# Altium schematic symbol library MyAltiumLibrary.SchLib: 375 symbols (part 1 of 2)
Pins are listed as number, name and electrical type; pins without a type are passive.

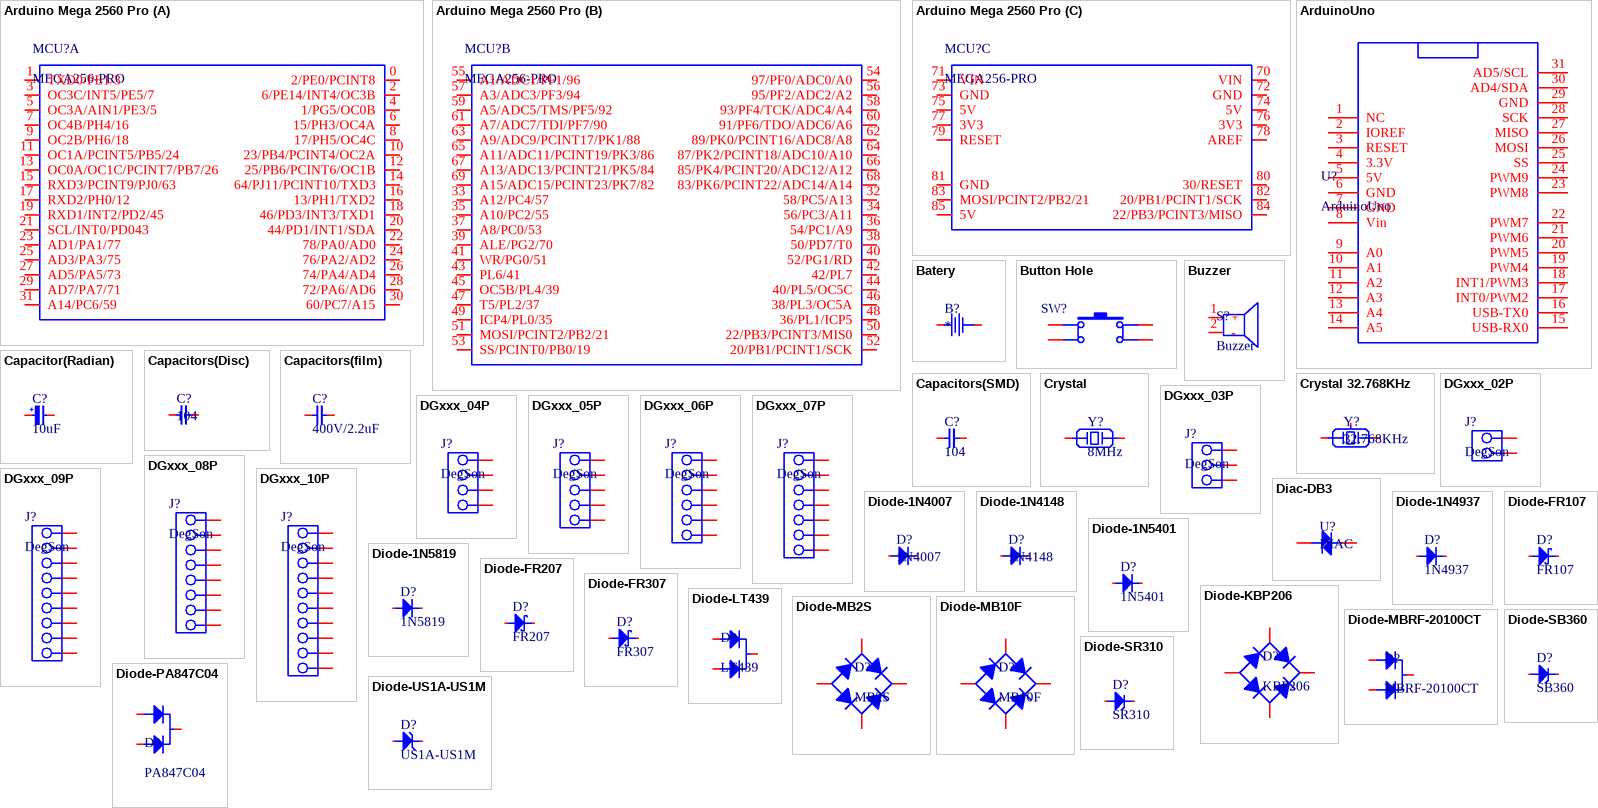
[diagram p0: symbols Arduino Mega 2560 Pro to Diode-US1A-US1M]

## Arduino Mega 2560 Pro
designator MCU?, comment MEGA256-PRO
footprint MEGA2560-PRO
part A pins: 0 2/PE0/PCINT8, 1 TXD0/PE1/3, 2 6/PE14/INT4/OC3B, 3 OC3C/INT5/PE5/7, 4 1/PG5/OC0B, 5 OC3A/AIN1/PE3/5, 6 15/PH3/OC4A, 7 OC4B/PH4/16, 8 17/PH5/OC4C, 9 OC2B/PH6/18, 10 23/PB4/PCINT4/OC2A, 11 OC1A/PCINT5/PB5/24, 12 25/PB6/PCINT6/OC1B, 13 OC0A/OC1C/PCINT7/PB7/26, 14 64/PJ11/PCINT10/TXD3, 15 RXD3/PCINT9/PJ0/63, 16 13/PH1/TXD2, 17 RXD2/PH0/12, 18 46/PD3/INT3/TXD1, 19 RXD1/INT2/PD2/45, 20 44/PD1/INT1/SDA, 21 SCL/INT0/PD043, 22 78/PA0/AD0, 23 AD1/PA1/77, 24 76/PA2/AD2, 25 AD3/PA3/75, 26 74/PA4/AD4, 27 AD5/PA5/73, 28 72/PA6/AD6, 29 AD7/PA7/71, 30 60/PC7/A15, 31 A14/PC6/59
part B pins: 32 58/PC5/A13, 33 A12/PC4/57, 34 56/PC3/A11, 35 A10/PC2/55, 36 54/PC1/A9, 37 A8/PC0/53, 38 50/PD7/T0, 39 ALE/PG2/70, 40 52/PG1/RD, 41 WR/PG0/51, 42 42/PL7, 43 PL6/41, 44 40/PL5/OC5C, 45 OC5B/PL4/39, 46 38/PL3/OC5A, 47 T5/PL2/37, 48 36/PL1/ICP5, 49 ICP4/PL0/35, 50 22/PB3/PCINT3/MIS0, 51 MOSI/PCINT2/PB2/21, 52 20/PB1/PCINT1/SCK, 53 SS/PCINT0/PB0/19, 54 97/PF0/ADC0/A0, 55 A1/ADC1/PF1/96, 56 95/PF2/ADC2/A2, 57 A3/ADC3/PF3/94, 58 93/PF4/TCK/ADC4/A4, 59 A5/ADC5/TMS/PF5/92, 60 91/PF6/TDO/ADC6/A6, 61 A7/ADC7/TDI/PF7/90, 62 89/PK0/PCINT16/ADC8/A8, 63 A9/ADC9/PCINT17/PK1/88, 64 87/PK2/PCINT18/ADC10/A10, 65 A11/ADC11/PCINT19/PK3/86, 66 85/PK4/PCINT20/ADC12/A12, 67 A13/ADC13/PCINT21/PK5/84, 68 83/PK6/PCINT22/ADC14/A14, 69 A15/ADC15/PCINT23/PK7/82
part C pins: 70 VIN, 71 VIN, 72 GND, 73 GND, 74 5V, 75 5V, 76 3V3, 77 3V3, 78 AREF, 79 RESET, 80 30/RESET, 81 GND, 82 20/PB1/PCINT1/SCK, 83 MOSI/PCINT2/PB2/21, 84 22/PB3/PCINT3/MISO, 85 5V

## ArduinoUno
designator U?
footprint Arduino_Uno
footprint ARDUINO_UNO_PIN_PACK
pins: 1 NC, 2 IOREF, 3 RESET, 4 3.3V, 5 5V, 6 GND, 7 GND, 8 Vin, 9 A0, 10 A1, 11 A2, 12 A3, 13 A4, 14 A5, 15 USB-RX0, 16 USB-TX0, 17 INT0/PWM2, 18 INT1/PWM3, 19 PWM4, 20 PWM5, 21 PWM6, 22 PWM7, 23 PWM8, 24 PWM9, 25 SS, 26 MOSI, 27 MISO, 28 SCK, 29 GND, 30 AD4/SDA, 31 AD5/SCL

## Batery
designator B?
footprint CR1220
pins: 1, 2

## Button Hole
designator SW?  (value not drawn)
footprint BUTTON_HOLE_4.3mm
footprint Tactal Switch - THRU(12mmx12mmx8mm)-Black.stp
footprint Tactal Switch - THRU(12mmx12mmx8mm)-Blue
footprint Tactal Switch - THRU(12mmx12mmx8mm)-Brown
footprint Tactal Switch - THRU(12mmx12mmx8mm)-Green
footprint Tactal Switch - THRU(12mmx12mmx8mm)-Orange
footprint Tactal Switch - THRU(12mmx12mmx8mm)-Red
footprint Tactal Switch - THRU(12mmx12mmx8mm)-White
footprint Tactal Switch - THRU(12mmx12mmx8mm)-Yellow
pins: 1, 2, 3, 4

## Buzzer
designator S?
footprint Buzeer-Hozital
footprint Buzzer-Vertical
pins: 1 +, 2 -

## Capacitor(Radian)
designator C?, comment 10uF
footprint CAP_RAD_D05x11
footprint CAP_RAD_D06.3x11
footprint CAP_RAD_D08x11.5
footprint CAP_RAD_D08x15
footprint CAP_RAD_D08x20
footprint CAP_RAD_D10x12.5
footprint CAP_RAD_D10x16
footprint CAP_RAD_D10x20
footprint CAP_RAD_D10x25
footprint CAP_RAD_D10x31.5
footprint CAP_RAD_D12.5x15
footprint CAP_RAD_D12.5x20
footprint CAP_RAD_D12.5x25
footprint CAP_RAD_D12.5x31.5
footprint CAP_RAD_D12.5x35.5
footprint CAP_RAD_D12.5x40
footprint CAP_RAD_D16x15
footprint CAP_RAD_D16x20
footprint CAP_RAD_D16x25
footprint CAP_RAD_D16x31.5
footprint CAP_RAD_D16x35.5
footprint CAP_RAD_D16x40
footprint CAP_RAD_D18x15
footprint CAP_RAD_D18x20
footprint CAP_RAD_D18x25
footprint CAP_RAD_D18x31.5
footprint CAP_RAD_D18x35.5
footprint CAP_RAD_D18x40
pins: 1, 2
text: +

## Capacitors(Disc)
designator C?, comment 104
footprint CAP_Ceramic_2.5MM
footprint CAP_Ceramic_5MM
footprint CAP_Ceramic_7.62MM
footprint CAP_Ceramic_7.62MM
footprint CAP_Ceramic_10MM
footprint CAP_Ceramic_472M_7.21MM
footprint CAP_Ceramic_473M_9.65mm
footprint CAP_DISC_104
pins: 1, 2

## Capacitors(film)
designator C?, comment 400V/2.2uF
footprint CAP_BOX_7.2x2.5x6.5_RD
footprint CAP_BOX_7.3x4.5x9.5_BL
footprint CAP_BOX_7.5x5x10_BL
footprint CAP_BOX_13x4x7_BL
footprint CAP_BOX_13x4x9_BL
footprint CAP_BOX_18x5x10.5_BL
footprint CAP_BOX_18x6x11_BL
footprint CAP_BOX_18x8.5x14.5_BL
footprint CAP-FILM-6X8MM
footprint CAP-FILM-5MM
footprint CAP-FILM-7.5MM
pins: 1, 2

## Capacitors(SMD)
designator C?, comment 104
footprint C0201
footprint C0402
footprint C0603
footprint C0805
footprint C1206
footprint C1808
footprint C1812
pins: 1, 2

## Crystal
designator Y?, comment 8MHz
footprint HC-49S
footprint HC-49_THROUGH
footprint SMD5032
pins: 1, 2

## Crystal 32.768KHz
designator Y?, comment 32.768KHz
footprint DT-26
footprint CRYSTAL 32.768
pins: 1, 2, 3 GND

## DGxxx_02P
designator J?, comment DegSon
footprint DG350-3.5-02P-12-00AH
footprint DG306-5.0-02P-12-00AH (• Current rating: 10 A AC/DC  • Voltage rating: 300 V AC/DC  • Temperature range: -30° ~ +120°  • Applicable wire: 22-14AWG UL (0.5 - 1.5mm² IEC))
footprint DG128-5.0-02P-14-00AH
footprint DG127-5.0-02P-14-00AH
footprint DG125-5.0-02P-14-00AH
footprint 2EDGR-5.08-02P-14-00AH
pins: 1, 2

## DGxxx_03P
designator J?, comment DegSon
footprint DG350-3.5-03P-12-00AH
footprint DG306-5.0-03P-12-00AH
footprint DG128-5.0-03P-14-00AH
footprint DG127-5.0-03P-14-00AH
footprint DG125-5.0-03P-14-00AH
footprint 2EDGR-5.08-03P-14-00AH
pins: 1, 2, 3

## DGxxx_04P
designator J?, comment DegSon
footprint DG350-3.5-04P-12-00AH
footprint DG306-5.0-04P-12-00AH
footprint DG128-5.0-04P-14-00AH
footprint DG127-5.0-04P-14-00AH
footprint DG125-5.0-04P-14-00AH
footprint 2EDGR-5.08-04P-14-00AH
pins: 1, 2, 3, 4

## DGxxx_05P
designator J?, comment DegSon
footprint DG350-3.5-05P-12-00AH
footprint DG306-5.0-05P-12-00AH
footprint DG128-5.0-05P-14-00AH
footprint DG127-5.0-05P-14-00AH
footprint DG125-5.0-05P-14-00AH
footprint 2EDGR-5.08-05P-14-00AH
pins: 1, 2, 3, 4, 5

## DGxxx_06P
designator J?, comment DegSon
footprint DG350-3.5-06P-12-00AH
footprint DG306-5.0-06P-12-00AH
footprint DG128-5.0-06P-14-00AH
footprint DG127-5.0-06P-14-00AH
footprint DG125-5.0-06P-14-00AH
footprint 2EDGR-5.08-06P-14-00AH
pins: 1, 2, 3, 4, 5, 6

## DGxxx_07P
designator J?, comment DegSon
footprint DG350-3.5-07P-12-00AH
footprint DG306-5.0-07P-12-00AH
footprint DG128-5.0-07P-14-00AH
footprint DG127-5.0-07P-14-00AH
footprint DG125-5.0-07P-14-00AH
footprint 2EDGR-5.08-07P-14-00AH
pins: 1, 2, 3, 4, 5, 6, 7

## DGxxx_08P
designator J?, comment DegSon
footprint DG350-3.5-08P-12-00AH
footprint DG306-5.0-08P-12-00AH
footprint DG128-5.0-08P-14-00AH
footprint DG127-5.0-08P-14-00AH
footprint DG125-5.0-08P-14-00AH
footprint 2EDGR-5.08-08P-14-00AH
pins: 1, 2, 3, 4, 5, 6, 7, 8

## DGxxx_09P
designator J?, comment DegSon
footprint DG350-3.5-09P-12-00AH
footprint DG306-5.0-09P-12-00AH
footprint DG128-5.0-09P-14-00AH
footprint DG127-5.0-09P-14-00AH
footprint DG125-5.0-09P-14-00AH
footprint 2EDGR-5.08-09P-14-00AH
pins: 1, 2, 3, 4, 5, 6, 7, 8, 9

## DGxxx_10P
designator J?, comment DegSon
footprint DG350-3.5-10P-12-00AH
footprint DG306-5.0-10P-12-00AH
footprint DG128-5.0-10P-14-00AH
footprint DG127-5.0-10P-14-00AH
footprint DG125-5.0-10P-14-00AH
footprint 2EDGR-5.08-10P-14-00AH
pins: 1, 2, 3, 4, 5, 6, 7, 8, 9, 10

## Diac-DB3
designator U?, comment DIAC
footprint SOT23-3
footprint DO-35-DIAC
pins: 1 4, 2

## Diode-1N4007
designator D?, comment 1N4007
footprint DO-214AC
footprint DO-204AL-BK
footprint DO-204AL-R-BK
pins: 1, 2

## Diode-1N4148
designator D?, comment 1N4148
The fast switching diode
footprint SOD-80
footprint DO-204AH-RD
footprint DO-204AH-VA-RD
footprint DO-204AH-VK-RD
pins: 1, 2

## Diode-1N4937
designator D?, comment 1N4937
footprint DO-204AL-BK
footprint DO-204AL-R-BK
footprint DO-204AL-VA-BK
footprint DO-204AL-VK-BK
pins: 1, 2

## Diode-1N5401
designator D?, comment 1N5401
footprint DO-201AD-BK
footprint DO-201AD-R-BK
pins: 1, 2

## Diode-1N5819
designator D?, comment 1N5819
1A - Schotky Diode
footprint DO-204AL-BK
footprint DO-204AL-R-BK
pins: 1, 2

## Diode-FR107
designator D?, comment FR107
1A 1000V
footprint SOD-123FL
footprint DO-204AL-BK
pins: 1, 2

## Diode-FR207
designator D?, comment FR207
footprint DO-204AC-BK
footprint DO-204AC-R-BK
pins: 1, 2

## Diode-FR307
designator D?, comment FR307
footprint DO-201AD-BK
footprint DO-201AD-R-BK
pins: 1, 2

## Diode-KBP206
designator D?, comment KBP206
footprint DIODE-KBP206
pins: 1 +, 2 AC, 3 AC, 4 -

## Diode-LT439
designator D?, comment LT439
footprint TO-220AB-FairA
footprint TO-220-HEAT-SINK-1
pins: 1, 2, 3

## Diode-MB2S
designator D?, comment MB2S
footprint TO-269AA
pins: 1, 2, 3, 4

## Diode-MB10F
designator D?, comment MB10F
1A 1000V
footprint MB10F-TMBS
pins: 1 AC, 2 AC, 3 +, 4 -

## Diode-MBRF-20100CT
designator D?, comment MBRF-20100CT
footprint TO-220F
footprint TO-220F-HEAT-SINK
pins: 1, 2, 3

## Diode-PA847C04
designator D?, comment PA847C04
40A-Schotky
footprint TO-3P
pins: 1, 2, 3

## Diode-SB360
designator D?, comment SB360
3A-SCHOTTKY
footprint DO-201AD-BK
footprint DO-201AD-R-BK
pins: 1, 2

## Diode-SR310
designator D?, comment SR310
3A-Schotky
footprint DO-201AD-R-BK
footprint DO-201AD-BK
pins: 1, 2

## Diode-US1A-US1M
designator D?, comment US1A-US1M
footprint DO-214AC(SMA)
pins: 1, 2

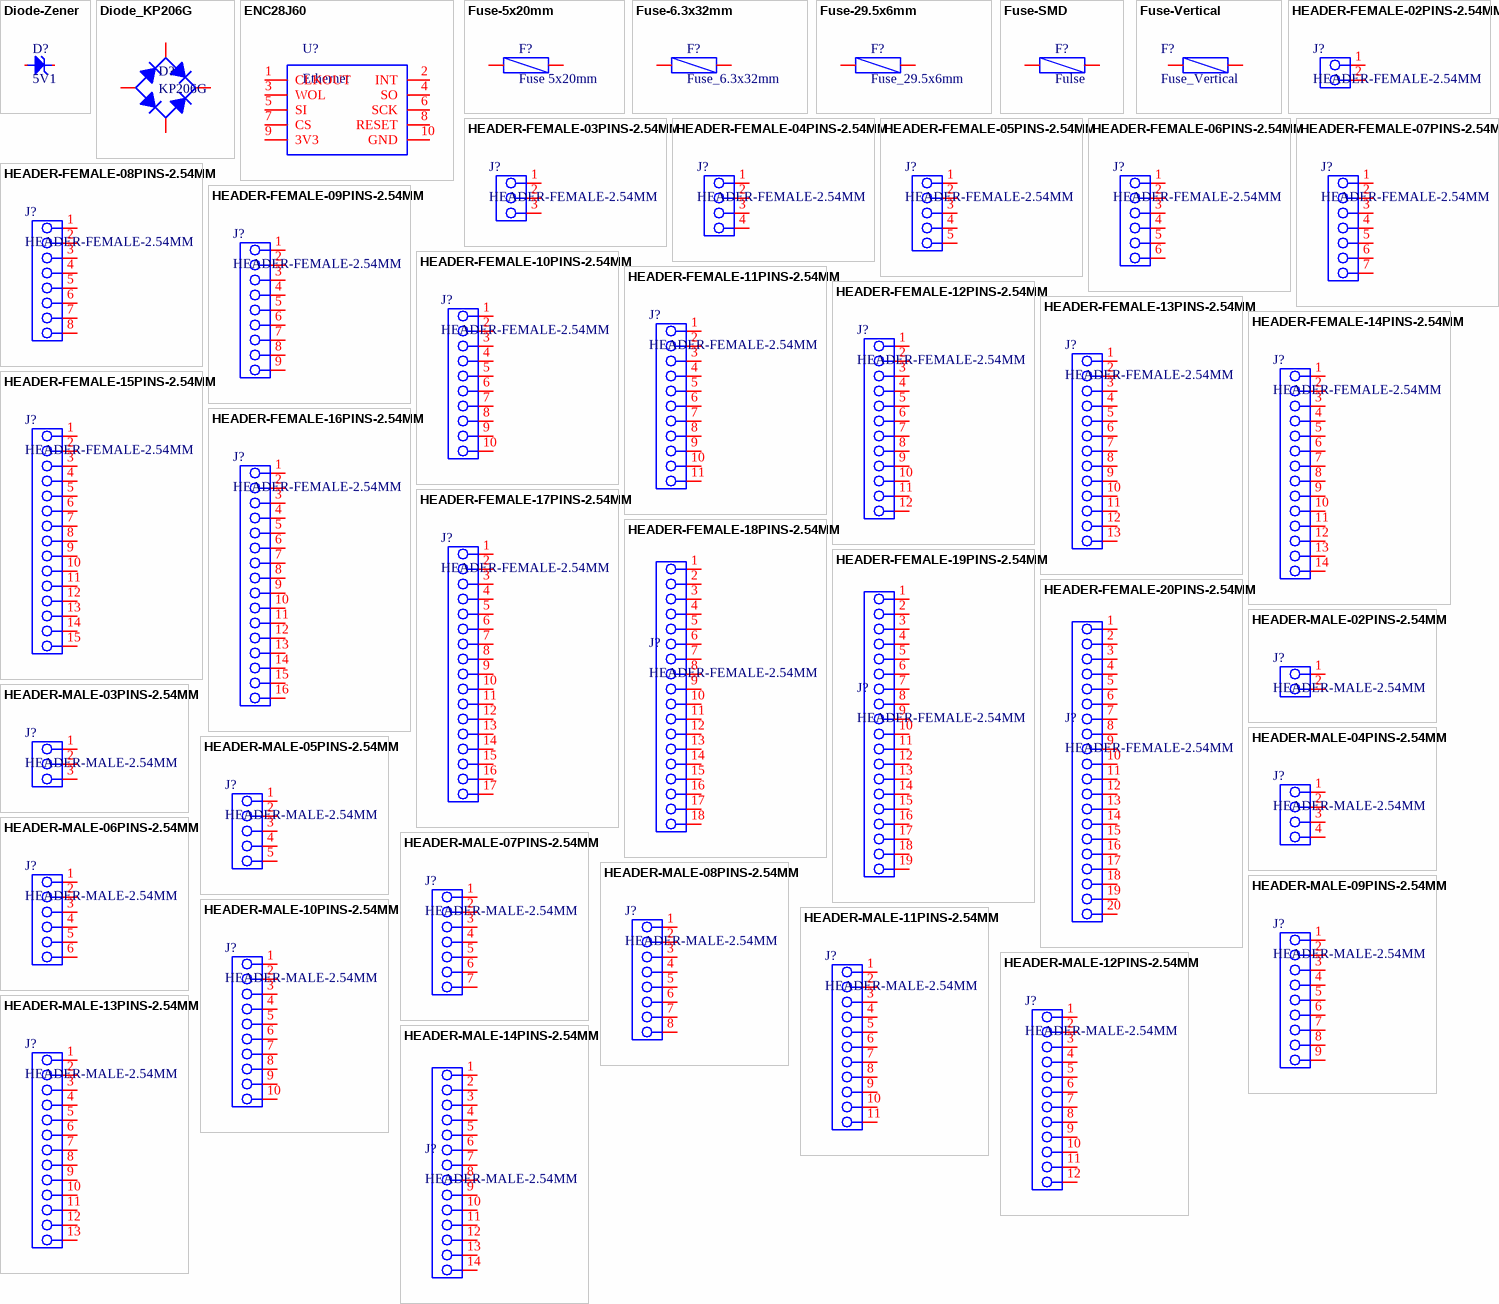
[diagram p1: symbols Diode-Zener to HEADER-MALE-14PINS-2.54MM]

## Diode-Zener
designator D?, comment 5V1
footprint DO-213AB
footprint DO-204AL-RD
pins: 1, 2

## Diode_KP206G
designator D?, comment KP206G
footprint DIODE_2A
pins: 1, 2, 3, 4

## ENC28J60
designator U?, comment Ethernet
footprint ENC28J60
pins: 1 CLKOUT, 2 INT, 3 WOL, 4 SO, 5 SI, 6 SCK, 7 CS, 8 RESET, 9 3V3, 10 GND

## Fuse-5x20mm
designator F?, comment Fuse 5x20mm
footprint FUSE_5x20MM
footprint FUSE_Bel_MJS
pins: 1, 2

## Fuse-6.3x32mm
designator F?, comment Fuse_6.3x32mm
footprint FUSE_6.3x32mm
pins: 1, 2

## Fuse-29.5x6mm
designator F?, comment Fuse_29.5x6mm
footprint FUSE_29.5x6mm
pins: 1, 2

## Fuse-SMD
designator F?, comment Fulse
footprint FUSE1812
pins: 1, 2

## Fuse-Vertical
designator F?, comment Fuse_Vertical
footprint FUSE_Vertical
footprint FUSE_Bel_MJS_V
pins: 1, 2

## HEADER-FEMALE-02PINS-2.54MM
designator J?, comment HEADER-FEMALE-2.54MM
footprint HEADER-FEMALE-02PINS-2.54MM
pins: 1, 2

## HEADER-FEMALE-03PINS-2.54MM
designator J?, comment HEADER-FEMALE-2.54MM
footprint HEADER-FEMALE-03PINS-2.54MM
pins: 1, 2, 3

## HEADER-FEMALE-04PINS-2.54MM
designator J?, comment HEADER-FEMALE-2.54MM
footprint HEADER-FEMALE-04PINS-2.54MM
pins: 1, 2, 3, 4

## HEADER-FEMALE-05PINS-2.54MM
designator J?, comment HEADER-FEMALE-2.54MM
footprint HEADER-FEMALE-05PINS-2.54MM
pins: 1, 2, 3, 4, 5

## HEADER-FEMALE-06PINS-2.54MM
designator J?, comment HEADER-FEMALE-2.54MM
footprint HEADER-FEMALE-06PINS-2.54MM
pins: 1, 2, 3, 4, 5, 6

## HEADER-FEMALE-07PINS-2.54MM
designator J?, comment HEADER-FEMALE-2.54MM
footprint HEADER-FEMALE-07PINS-2.54MM
pins: 1, 2, 3, 4, 5, 6, 7

## HEADER-FEMALE-08PINS-2.54MM
designator J?, comment HEADER-FEMALE-2.54MM
footprint HEADER-FEMALE-08PINS-2.54MM
pins: 1, 2, 3, 4, 5, 6, 7, 8

## HEADER-FEMALE-09PINS-2.54MM
designator J?, comment HEADER-FEMALE-2.54MM
footprint HEADER-FEMALE-09PINS-2.54MM
pins: 1, 2, 3, 4, 5, 6, 7, 8, 9

## HEADER-FEMALE-10PINS-2.54MM
designator J?, comment HEADER-FEMALE-2.54MM
footprint HEADER-FEMALE-10PINS-2.54MM
pins: 1, 2, 3, 4, 5, 6, 7, 8, 9, 10

## HEADER-FEMALE-11PINS-2.54MM
designator J?, comment HEADER-FEMALE-2.54MM
footprint HEADER-FEMALE-11PINS-2.54MM
pins: 1, 2, 3, 4, 5, 6, 7, 8, 9, 10, 11

## HEADER-FEMALE-12PINS-2.54MM
designator J?, comment HEADER-FEMALE-2.54MM
footprint HEADER-FEMALE-12PINS-2.54MM
pins: 1, 2, 3, 4, 5, 6, 7, 8, 9, 10, 11, 12

## HEADER-FEMALE-13PINS-2.54MM
designator J?, comment HEADER-FEMALE-2.54MM
footprint HEADER-FEMALE-13PINS-2.54MM
pins: 1, 2, 3, 4, 5, 6, 7, 8, 9, 10, 11, 12, 13

## HEADER-FEMALE-14PINS-2.54MM
designator J?, comment HEADER-FEMALE-2.54MM
footprint HEADER-FEMALE-14PINS-2.54MM
pins: 1, 2, 3, 4, 5, 6, 7, 8, 9, 10, 11, 12, 13, 14

## HEADER-FEMALE-15PINS-2.54MM
designator J?, comment HEADER-FEMALE-2.54MM
footprint HEADER-FEMALE-15PINS-2.54MM
pins: 1, 2, 3, 4, 5, 6, 7, 8, 9, 10, 11, 12, 13, 14, 15

## HEADER-FEMALE-16PINS-2.54MM
designator J?, comment HEADER-FEMALE-2.54MM
footprint HEADER-FEMALE-16PINS-2.54MM
pins: 1, 2, 3, 4, 5, 6, 7, 8, 9, 10, 11, 12, 13, 14, 15, 16

## HEADER-FEMALE-17PINS-2.54MM
designator J?, comment HEADER-FEMALE-2.54MM
footprint HEADER-FEMALE-17PINS-2.54MM
pins: 1, 2, 3, 4, 5, 6, 7, 8, 9, 10, 11, 12, 13, 14, 15, 16, 17

## HEADER-FEMALE-18PINS-2.54MM
designator J?, comment HEADER-FEMALE-2.54MM
footprint HEADER-FEMALE-18PINS-2.54MM
pins: 1, 2, 3, 4, 5, 6, 7, 8, 9, 10, 11, 12, 13, 14, 15, 16, 17, 18

## HEADER-FEMALE-19PINS-2.54MM
designator J?, comment HEADER-FEMALE-2.54MM
footprint HEADER-FEMALE-19PINS-2.54MM
pins: 1, 2, 3, 4, 5, 6, 7, 8, 9, 10, 11, 12, 13, 14, 15, 16, 17, 18, 19

## HEADER-FEMALE-20PINS-2.54MM
designator J?, comment HEADER-FEMALE-2.54MM
footprint HEADER-FEMALE-20PINS-2.54MM
pins: 1, 2, 3, 4, 5, 6, 7, 8, 9, 10, 11, 12, 13, 14, 15, 16, 17, 18, 19, 20

## HEADER-MALE-02PINS-2.54MM
designator J?, comment HEADER-MALE-2.54MM
footprint HEADER-MALE-02PINS-2.54MM
pins: 1, 2

## HEADER-MALE-03PINS-2.54MM
designator J?, comment HEADER-MALE-2.54MM
footprint HEADER-MALE-03PINS-2.54MM
pins: 1, 2, 3

## HEADER-MALE-04PINS-2.54MM
designator J?, comment HEADER-MALE-2.54MM
footprint HEADER-MALE-04PINS-2.54MM
pins: 1, 2, 3, 4

## HEADER-MALE-05PINS-2.54MM
designator J?, comment HEADER-MALE-2.54MM
footprint HEADER-MALE-05PINS-2.54MM
pins: 1, 2, 3, 4, 5

## HEADER-MALE-06PINS-2.54MM
designator J?, comment HEADER-MALE-2.54MM
footprint HEADER-MALE-06PINS-2.54MM
pins: 1, 2, 3, 4, 5, 6

## HEADER-MALE-07PINS-2.54MM
designator J?, comment HEADER-MALE-2.54MM
footprint HEADER-MALE-07PINS-2.54MM
pins: 1, 2, 3, 4, 5, 6, 7

## HEADER-MALE-08PINS-2.54MM
designator J?, comment HEADER-MALE-2.54MM
footprint HEADER-MALE-08PINS-2.54MM
pins: 1, 2, 3, 4, 5, 6, 7, 8

## HEADER-MALE-09PINS-2.54MM
designator J?, comment HEADER-MALE-2.54MM
footprint HEADER-MALE-09PINS-2.54MM
pins: 1, 2, 3, 4, 5, 6, 7, 8, 9

## HEADER-MALE-10PINS-2.54MM
designator J?, comment HEADER-MALE-2.54MM
footprint HEADER-MALE-10PINS-2.54MM
pins: 1, 2, 3, 4, 5, 6, 7, 8, 9, 10

## HEADER-MALE-11PINS-2.54MM
designator J?, comment HEADER-MALE-2.54MM
footprint HEADER-MALE-11PINS-2.54MM
pins: 1, 2, 3, 4, 5, 6, 7, 8, 9, 10, 11

## HEADER-MALE-12PINS-2.54MM
designator J?, comment HEADER-MALE-2.54MM
footprint HEADER-MALE-12PINS-2.54MM
pins: 1, 2, 3, 4, 5, 6, 7, 8, 9, 10, 11, 12

## HEADER-MALE-13PINS-2.54MM
designator J?, comment HEADER-MALE-2.54MM
footprint HEADER-MALE-13PINS-2.54MM
pins: 1, 2, 3, 4, 5, 6, 7, 8, 9, 10, 11, 12, 13

## HEADER-MALE-14PINS-2.54MM
designator J?, comment HEADER-MALE-2.54MM
footprint HEADER-MALE-14PINS-2.54MM
pins: 1, 2, 3, 4, 5, 6, 7, 8, 9, 10, 11, 12, 13, 14

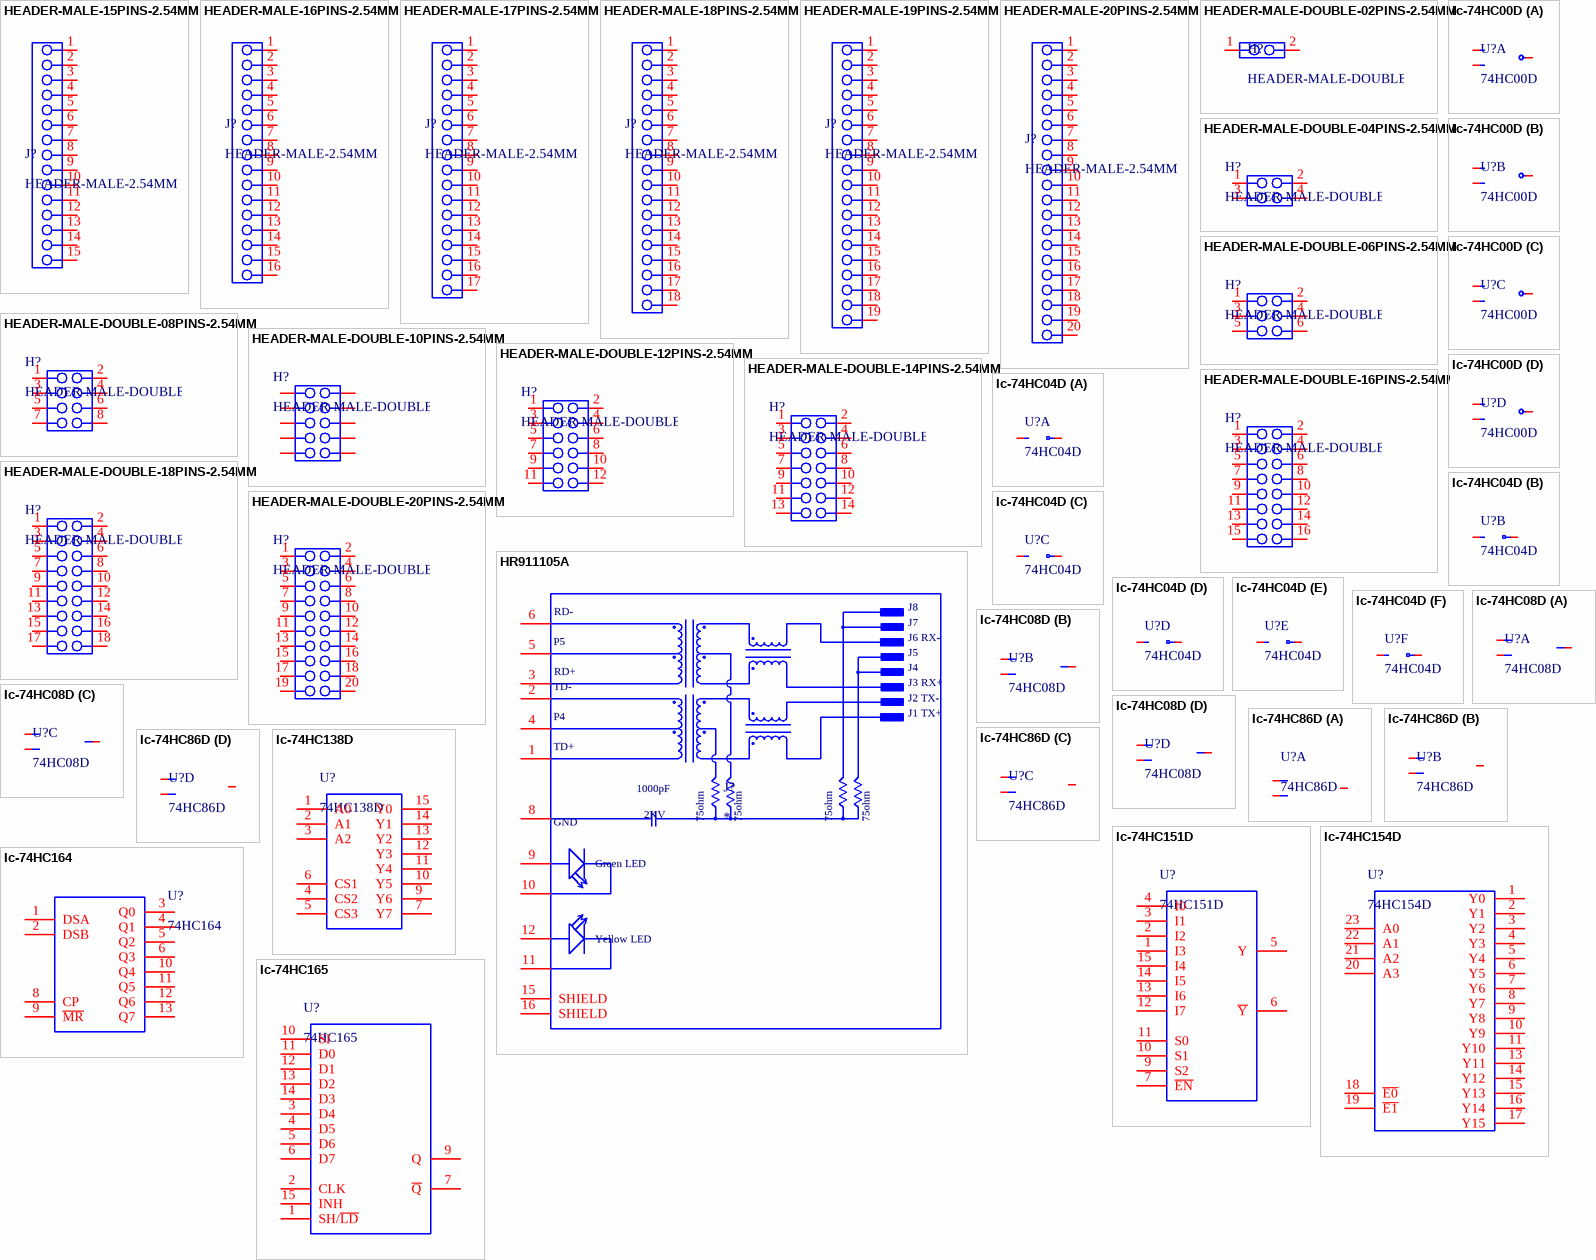
[diagram p2: symbols HEADER-MALE-15PINS-2.54MM to Ic-74HC165]

## HEADER-MALE-15PINS-2.54MM
designator J?, comment HEADER-MALE-2.54MM
footprint HEADER-MALE-15PINS-2.54MM
pins: 1, 2, 3, 4, 5, 6, 7, 8, 9, 10, 11, 12, 13, 14, 15

## HEADER-MALE-16PINS-2.54MM
designator J?, comment HEADER-MALE-2.54MM
footprint HEADER-MALE-16PINS-2.54MM
pins: 1, 2, 3, 4, 5, 6, 7, 8, 9, 10, 11, 12, 13, 14, 15, 16

## HEADER-MALE-17PINS-2.54MM
designator J?, comment HEADER-MALE-2.54MM
footprint HEADER-MALE-17PINS-2.54MM
pins: 1, 2, 3, 4, 5, 6, 7, 8, 9, 10, 11, 12, 13, 14, 15, 16, 17

## HEADER-MALE-18PINS-2.54MM
designator J?, comment HEADER-MALE-2.54MM
footprint HEADER-MALE-18PINS-2.54MM
pins: 1, 2, 3, 4, 5, 6, 7, 8, 9, 10, 11, 12, 13, 14, 15, 16, 17, 18

## HEADER-MALE-19PINS-2.54MM
designator J?, comment HEADER-MALE-2.54MM
footprint HEADER-MALE-19PINS-2.54MM
pins: 1, 2, 3, 4, 5, 6, 7, 8, 9, 10, 11, 12, 13, 14, 15, 16, 17, 18, 19

## HEADER-MALE-20PINS-2.54MM
designator J?, comment HEADER-MALE-2.54MM
footprint HEADER-MALE-20PINS-2.54MM
pins: 1, 2, 3, 4, 5, 6, 7, 8, 9, 10, 11, 12, 13, 14, 15, 16, 17, 18, 19, 20

## HEADER-MALE-DOUBLE-02PINS-2.54MM
designator H?, comment HEADER-MALE-DOUBLE
footprint HEADER-MALE-DOUBLE-02PINS-2.54MM
pins: 1, 2

## HEADER-MALE-DOUBLE-04PINS-2.54MM
designator H?, comment HEADER-MALE-DOUBLE
footprint HEADER-MALE-DOUBLE-04PINS-2.54MM
pins: 1, 2, 3, 4

## HEADER-MALE-DOUBLE-06PINS-2.54MM
designator H?, comment HEADER-MALE-DOUBLE
footprint HEADER-MALE-DOUBLE-06PINS-2.54MM
pins: 1, 2, 3, 4, 5, 6

## HEADER-MALE-DOUBLE-08PINS-2.54MM
designator H?, comment HEADER-MALE-DOUBLE
footprint HEADER-MALE-DOUBLE-08PINS-2.54MM
pins: 1, 2, 3, 4, 5, 6, 7, 8

## HEADER-MALE-DOUBLE-10PINS-2.54MM
designator H?, comment HEADER-MALE-DOUBLE
footprint HEADER-MALE-DOUBLE-10PINS-2.54MM
pins: 1, 2, 3, 4, 5, 6, 7, 8, 9, 10

## HEADER-MALE-DOUBLE-12PINS-2.54MM
designator H?, comment HEADER-MALE-DOUBLE
footprint HEADER-MALE-DOUBLE-12PINS-2.54MM
pins: 1, 2, 3, 4, 5, 6, 7, 8, 9, 10, 11, 12

## HEADER-MALE-DOUBLE-14PINS-2.54MM
designator H?, comment HEADER-MALE-DOUBLE
footprint HEADER-MALE-DOUBLE-14PINS-2.54MM
pins: 1, 2, 3, 4, 5, 6, 7, 8, 9, 10, 11, 12, 13, 14

## HEADER-MALE-DOUBLE-16PINS-2.54MM
designator H?, comment HEADER-MALE-DOUBLE
footprint HEADER-MALE-DOUBLE-16PINS-2.54MM
pins: 1, 2, 3, 4, 5, 6, 7, 8, 9, 10, 11, 12, 13, 14, 15, 16

## HEADER-MALE-DOUBLE-18PINS-2.54MM
designator H?, comment HEADER-MALE-DOUBLE
footprint HEADER-MALE-DOUBLE-18PINS-2.54MM
pins: 1, 2, 3, 4, 5, 6, 7, 8, 9, 10, 11, 12, 13, 14, 15, 16, 17, 18

## HEADER-MALE-DOUBLE-20PINS-2.54MM
designator H?, comment HEADER-MALE-DOUBLE
footprint HEADER-MALE-DOUBLE-20PINS-2.54MM
pins: 1, 2, 3, 4, 5, 6, 7, 8, 9, 10, 11, 12, 13, 14, 15, 16, 17, 18, 19, 20

## HR911105A
designator J?
footprint HR911105A
pins: 1 TD+, 2 TD-, 3 RD+, 4 P4, 5 P5, 6 RD-, 8 GND (power), 9 GA, 10 GC, 11 YC, 12 YA, 15 SHIELD, 16 SHIELD
text: J8; J7; J6 RX-; J5; J4; J3 RX+; J2 TX-; J1 TX+; 1000pF; 2KV; 75ohm; Green LED; Yellow LED

## Ic-74HC00D
designator U?, comment 74HC00D
footprint SO14
part A pins: 1, 2, 3, 7 hidden to GND, 14 hidden to VCC
part B pins: 4, 5, 6
part C pins: 8, 9, 10
part D pins: 11, 12, 13

## Ic-74HC04D
designator U?, comment 74HC04D
footprint SO14
part A pins: 1, 2, 7 hidden to GND, 14 hidden to VCC
part B pins: 3, 4
part C pins: 5, 6
part D pins: 8, 9
part E pins: 10, 11
part F pins: 12, 13

## Ic-74HC08D
designator U?, comment 74HC08D
footprint SO14
part A pins: 1, 2, 3
part B pins: 4, 5, 6, 7 hidden to GND, 14 hidden to VCC
part C pins: 8, 9, 10
part D pins: 11, 12, 13

## Ic-74HC86D
designator U?, comment 74HC86D
footprint SO14
part A pins: 1, 2, 3, 7 hidden to GND, 14 hidden to VCC
part B pins: 4, 5, 6
part C pins: 8, 9, 10
part D pins: 11, 12, 13

## Ic-74HC138D
designator U?, comment 74HC138D
footprint SO16
pins: 1 A0, 2 A1, 3 A2, 4 CS2, 5 CS3, 6 CS1, 7 Y7, 8 hidden to GND, 9 Y6, 10 Y5, 11 Y4, 12 Y3, 13 Y2, 14 Y1, 15 Y0, 16 hidden to VCC

## Ic-74HC151D
designator U?, comment 74HC151D
footprint SO16
pins: 1 I3, 2 I2, 3 I1, 4 I0, 5 Y, 6 ~{Y}, 7 ~{EN}, 8 hidden to GND, 9 S2, 10 S1, 11 S0, 12 I7, 13 I6, 14 I5, 15 I4, 16 hidden to VCC

## Ic-74HC154D
designator U?, comment 74HC154D
footprint SO24
pins: 1 Y0, 2 Y1, 3 Y2, 4 Y3, 5 Y4, 6 Y5, 7 Y6, 8 Y7, 9 Y8, 10 Y9, 11 Y10, 12 hidden to GND, 13 Y11, 14 Y12, 15 Y13, 16 Y14, 17 Y15, 18 ~{E0}, 19 ~{E1}, 20 A3, 21 A2, 22 A1, 23 A0, 24 hidden to VCC

## Ic-74HC164
designator U?, comment 74HC164
footprint SO14
pins: 1 DSA, 2 DSB, 3 Q0, 4 Q1, 5 Q2, 6 Q3, 7 hidden to GND, 8 CP, 9 ~{MR}, 10 Q4, 11 Q5, 12 Q6, 13 Q7, 14 hidden to VCC

## Ic-74HC165
designator U?, comment 74HC165
footprint SO16
pins: 1 SH/~{LD}, 2 CLK, 3 D4, 4 D5, 5 D6, 6 D7, 7 ~{Q}, 8 hidden to GND, 9 Q, 10 SI, 11 D0, 12 D1, 13 D2, 14 D3, 15 INH, 16 hidden to VCC

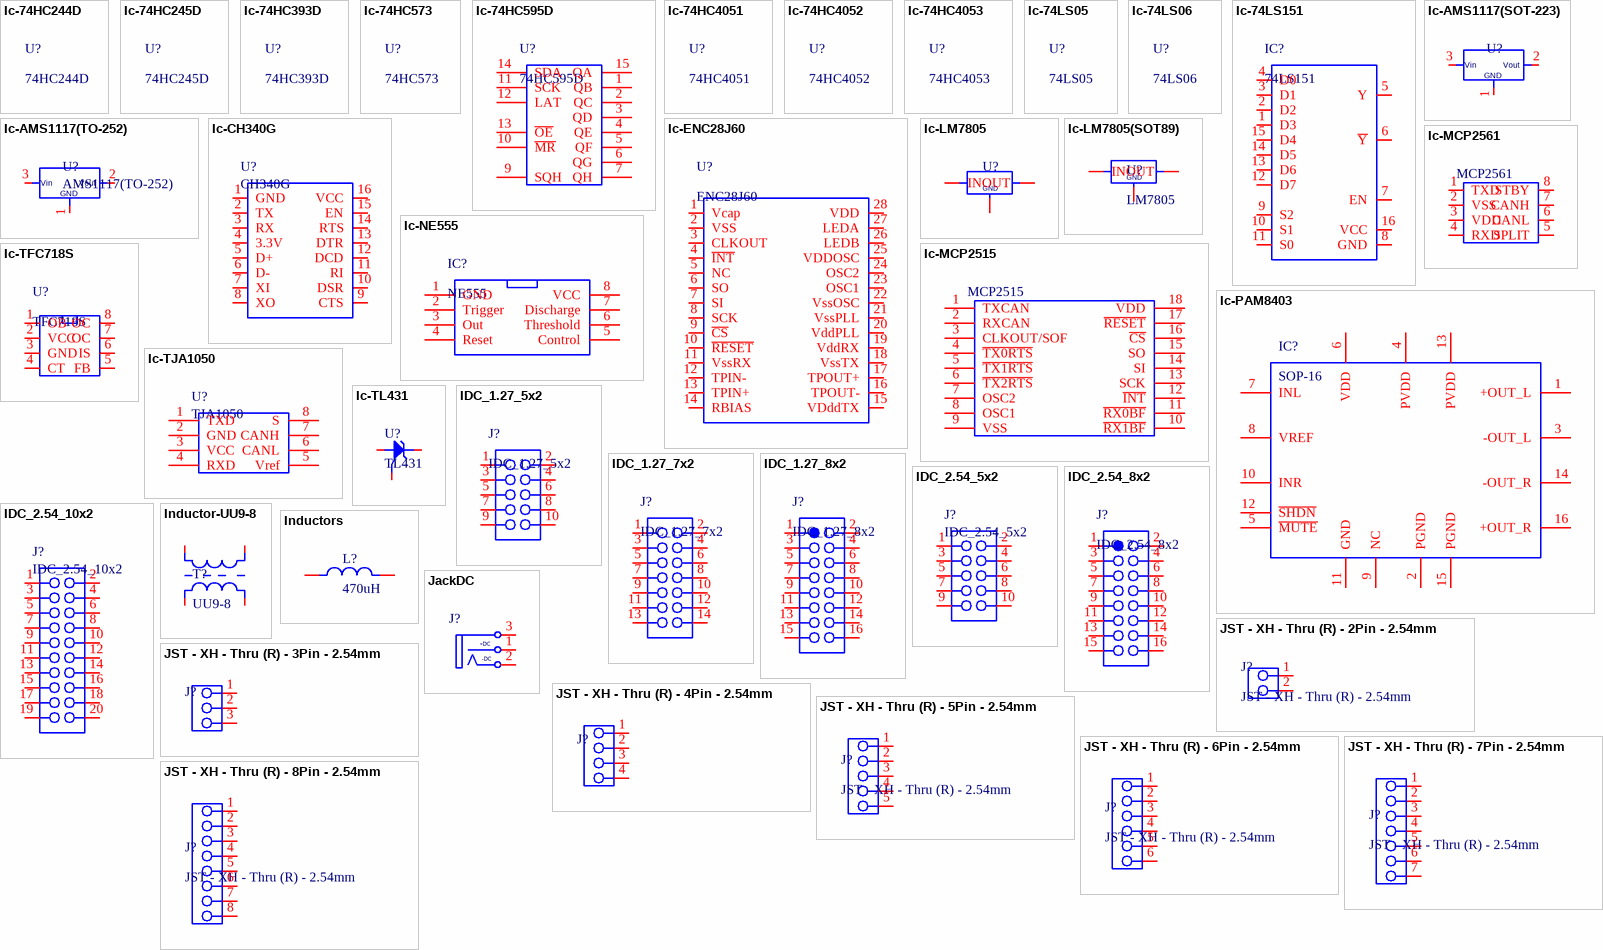
[diagram p3: symbols Ic-74HC244D to JST - XH - Thru (R) - 8Pin - 2.54mm]

## Ic-74HC244D
designator U?, comment 74HC244D
footprint SO20

## Ic-74HC245D
designator U?, comment 74HC245D
footprint SOIC20_1.27_7.5

## Ic-74HC393D
designator U?, comment 74HC393D
footprint SO14

## Ic-74HC573
designator U?, comment 74HC573
footprint SO20

## Ic-74HC595D
designator U?, comment 74HC595D
footprint SO16
pins: 1 QB, 2 QC, 3 QD, 4 QE, 5 QF, 6 QG, 7 QH, 8 hidden to GND, 9 SQH "OUTPUT", 10 ~{MR} "OUTPUT", 11 SCK "OUTPUT", 12 LAT "OUTPUT", 13 ~{OE} "OUTPUT", 14 SDA "OUTPUT", 15 QA, 16 hidden to VCC

## Ic-74HC4051
designator U?, comment 74HC4051
footprint SO16

## Ic-74HC4052
designator U?, comment 74HC4052
footprint SO16

## Ic-74HC4053
designator U?, comment 74HC4053
footprint SO16

## Ic-74LS05
designator U?, comment 74LS05
footprint SO14

## Ic-74LS06
designator U?, comment 74LS06
footprint SO14

## Ic-74LS151
designator IC?, comment 74LS151
8-input multiplexer
footprint DIP-16
footprint SOP-16
pins: 1 D3, 2 D2, 3 D1, 4 D0, 5 Y, 6 ~{Y}, 7 EN, 8 GND, 9 S2, 10 S1, 11 S0, 12 D7, 13 D6, 14 D5, 15 D4, 16 VCC

## Ic-AMS1117(SOT-223)
designator U?, comment AMS1117  (value not drawn)
footprint SOT223-3
pins: 1, 2, 3
text: Vin; Vout; GND

## Ic-AMS1117(TO-252)
designator U?, comment AMS1117(TO-252)
footprint TO252-3
pins: 1, 2, 3
text: Vin; Vout; GND

## Ic-CH340G
designator U?, comment CH340G
footprint SO16
pins: 1 GND, 2 TX, 3 RX, 4 3.3V, 5 D+, 6 D-, 7 XI, 8 XO, 9 CTS, 10 DSR, 11 RI, 12 DCD, 13 DTR, 14 RTS, 15 EN, 16 VCC

## Ic-ENC28J60
designator U?, comment ENC28J60
footprint SOIC28_1.27_10.3
pins: 1 Vcap, 2 VSS, 3 CLKOUT, 4 ~{INT}, 5 NC, 6 SO, 7 SI, 8 SCK, 9 ~{CS}, 10 ~{RESET}, 11 VssRX, 12 TPIN-, 13 TPIN+, 14 RBIAS, 15 VDddTX, 16 TPOUT-, 17 TPOUT+, 18 VssTX, 19 VddRX, 20 VddPLL, 21 VssPLL, 22 VssOSC, 23 OSC1, 24 OSC2, 25 VDDOSC, 26 LEDB, 27 LEDA, 28 VDD

## Ic-LM7805
designator U?, comment LM7805  (value not drawn)
footprint TO252-3
pins: 1 IN, 2 GND, 3 OUT

## Ic-LM7805(SOT89)
designator U?, comment LM7805
footprint SOT-89
pins: 1 OUT, 2 GND, 3 IN

## Ic-MCP2515
designator MCP2515, comment Stand-Alone CAN Controller with SPI Interface  (value not drawn)
footprint SOIC18_1.27_7.5
pins: 1 TXCAN, 2 RXCAN, 3 CLKOUT/SOF, 4 ~{TX0RTS}, 5 ~{TX1RTS}, 6 ~{TX2RTS}, 7 OSC2, 8 OSC1, 9 VSS, 10 ~{RX1BF}, 11 ~{RX0BF}, 12 ~{INT}, 13 SCK, 14 SI, 15 SO, 16 ~{CS}, 17 ~{RESET}, 18 VDD

## Ic-MCP2561
designator MCP2561, comment High-Speed CAN Transceiver  (value not drawn)
footprint SOIC08_1.27_6.0
pins: 1 TXD, 2 VSS, 3 VDD, 4 RXD, 5 SPLIT, 6 CANL, 7 CANH, 8 STBY

## Ic-NE555
designator IC?, comment NE555
footprint N08E_TEX
pins: 1 GND, 2 Trigger, 3 Out, 4 Reset, 5 Control, 6 Threshold, 7 Discharge, 8 VCC

## Ic-PAM8403
designator IC?, comment SOP-16
footprint SO16
pins: 1 +OUT_L, 2 PGND, 3 -OUT_L, 4 PVDD, 5 ~{MUTE}, 6 VDD, 7 INL, 8 VREF, 9 NC, 10 INR, 11 GND, 12 ~{SHDN}, 13 PVDD, 14 -OUT_R, 15 PGND, 16 +OUT_R

## Ic-TFC718S
designator U?, comment TFC718S
footprint DIP-8
pins: 1 OB, 2 VCC, 3 GND, 4 CT, 5 FB, 6 IS, 7 OC, 8 OC

## Ic-TJA1050
designator U?, comment TJA1050
footprint SOIC08_1.27_6.0
pins: 1 TXD, 2 GND, 3 VCC, 4 RXD, 5 Vref, 6 CANL, 7 CANH, 8 S

## Ic-TL431
designator U?, comment TL431
footprint TO-92
pins: 1, 2, 3

## IDC_1.27_5x2
designator J?
footprint CONB127P-2R-10W_TH
pins: 1, 2, 3, 4, 5, 6, 7, 8, 9, 10

## IDC_1.27_7x2
designator J?
footprint CONB127P-2R-14W_TH
pins: 1, 2, 3, 4, 5, 6, 7, 8, 9, 10, 11, 12, 13, 14

## IDC_1.27_8x2
designator J?
footprint CONB127P-2R-16W_TH
pins: 1, 2, 3, 4, 5, 6, 7, 8, 9, 10, 11, 12, 13, 14, 15, 16

## IDC_2.54_5x2
designator J?
footprint IDC_CONNECTOR_10x2.54
footprint TE_1-1634689-0_IDC10_RA
pins: 1, 2, 3, 4, 5, 6, 7, 8, 9, 10

## IDC_2.54_8x2
designator J?
footprint TE_1-1634688-4_IDC16_V
pins: 1, 2, 3, 4, 5, 6, 7, 8, 9, 10, 11, 12, 13 14, 14, 15, 16

## IDC_2.54_10x2
designator J?
footprint IDC_CONNECTOR_20_2.54
pins: 1, 2, 3, 4, 5, 6, 7, 8, 9, 10, 11, 12, 13, 14, 15, 16, 17, 18, 19, 20

## Inductor-UU9-8
designator T?, comment UU9-8
footprint INDUCTOR-BOBBIN-UF9-8
footprint INDUCTOR-BOBBIN
pins: 1, 2 4, 3, 4

## Inductors
designator L?, comment 470uH
footprint INDUCTOR_470uH
footprint INDUCTOR_1206
footprint RLB0608_horizontal
footprint RLB0608_vertical
footprint RLB0712_horizontal
footprint RLB0712_vertical
footprint RLB0812_horizontal
footprint RLB0812_vertical
footprint RLB0912_horizontal
footprint RLB0912_vertical
footprint RLB0914_horizontal
footprint RLB0914_vertical
footprint RLB1014_horizontal
footprint RLB1014_vertical
footprint RLB1314_pitch_7_horizontal
footprint RLB1314_pitch_7_vertical
footprint RLB1314_pitch_9_horizontal
footprint RLB1314_pitch_9_vertical
pins: 1, 2

## JackDC
designator J?, comment Connector  (value not drawn)
footprint DC_JACK_161-0721
footprint DC_K375A_Power
pins: 1 DS+ (power) "Sleeve (Ground)", 2 DC- "Tip Normal (Break Contact)", 3 T "Tip"
text: +DC; -DC

## JST - XH - Thru (R) - 2Pin - 2.54mm
designator J?, comment JST - XH - Thru (R) - 2.54mm
footprint JST - XH - Thru (R) - 2Pin - 2.54mm
pins: 1, 2

## JST - XH - Thru (R) - 3Pin - 2.54mm
designator J?, comment JST - XH - Thru (R) - 2.54mm  (value not drawn)
footprint JST - XH - Thru (R) - 3Pin - 2.54mm
pins: 1, 2, 3

## JST - XH - Thru (R) - 4Pin - 2.54mm
designator J?, comment JST - XH - Thru (R) - 2.54mm  (value not drawn)
footprint JST - XH - Thru (R) - 4Pin - 2.54mm
pins: 1, 2, 3, 4

## JST - XH - Thru (R) - 5Pin - 2.54mm
designator J?, comment JST - XH - Thru (R) - 2.54mm
footprint JST - XH - Thru (R) - 5Pin - 2.54mm
pins: 1, 2, 3, 4, 5

## JST - XH - Thru (R) - 6Pin - 2.54mm
designator J?, comment JST - XH - Thru (R) - 2.54mm
footprint JST - XH - Thru (R) - 6Pin - 2.54mm
pins: 1, 2, 3, 4, 5, 6

## JST - XH - Thru (R) - 7Pin - 2.54mm
designator J?, comment JST - XH - Thru (R) - 2.54mm
footprint JST - XH - Thru (R) - 7Pin - 2.54mm
pins: 1, 2, 3, 4, 5, 6, 7

## JST - XH - Thru (R) - 8Pin - 2.54mm
designator J?, comment JST - XH - Thru (R) - 2.54mm
footprint JST - XH - Thru (R) - 8Pin - 2.54mm
pins: 1, 2, 3, 4, 5, 6, 7, 8

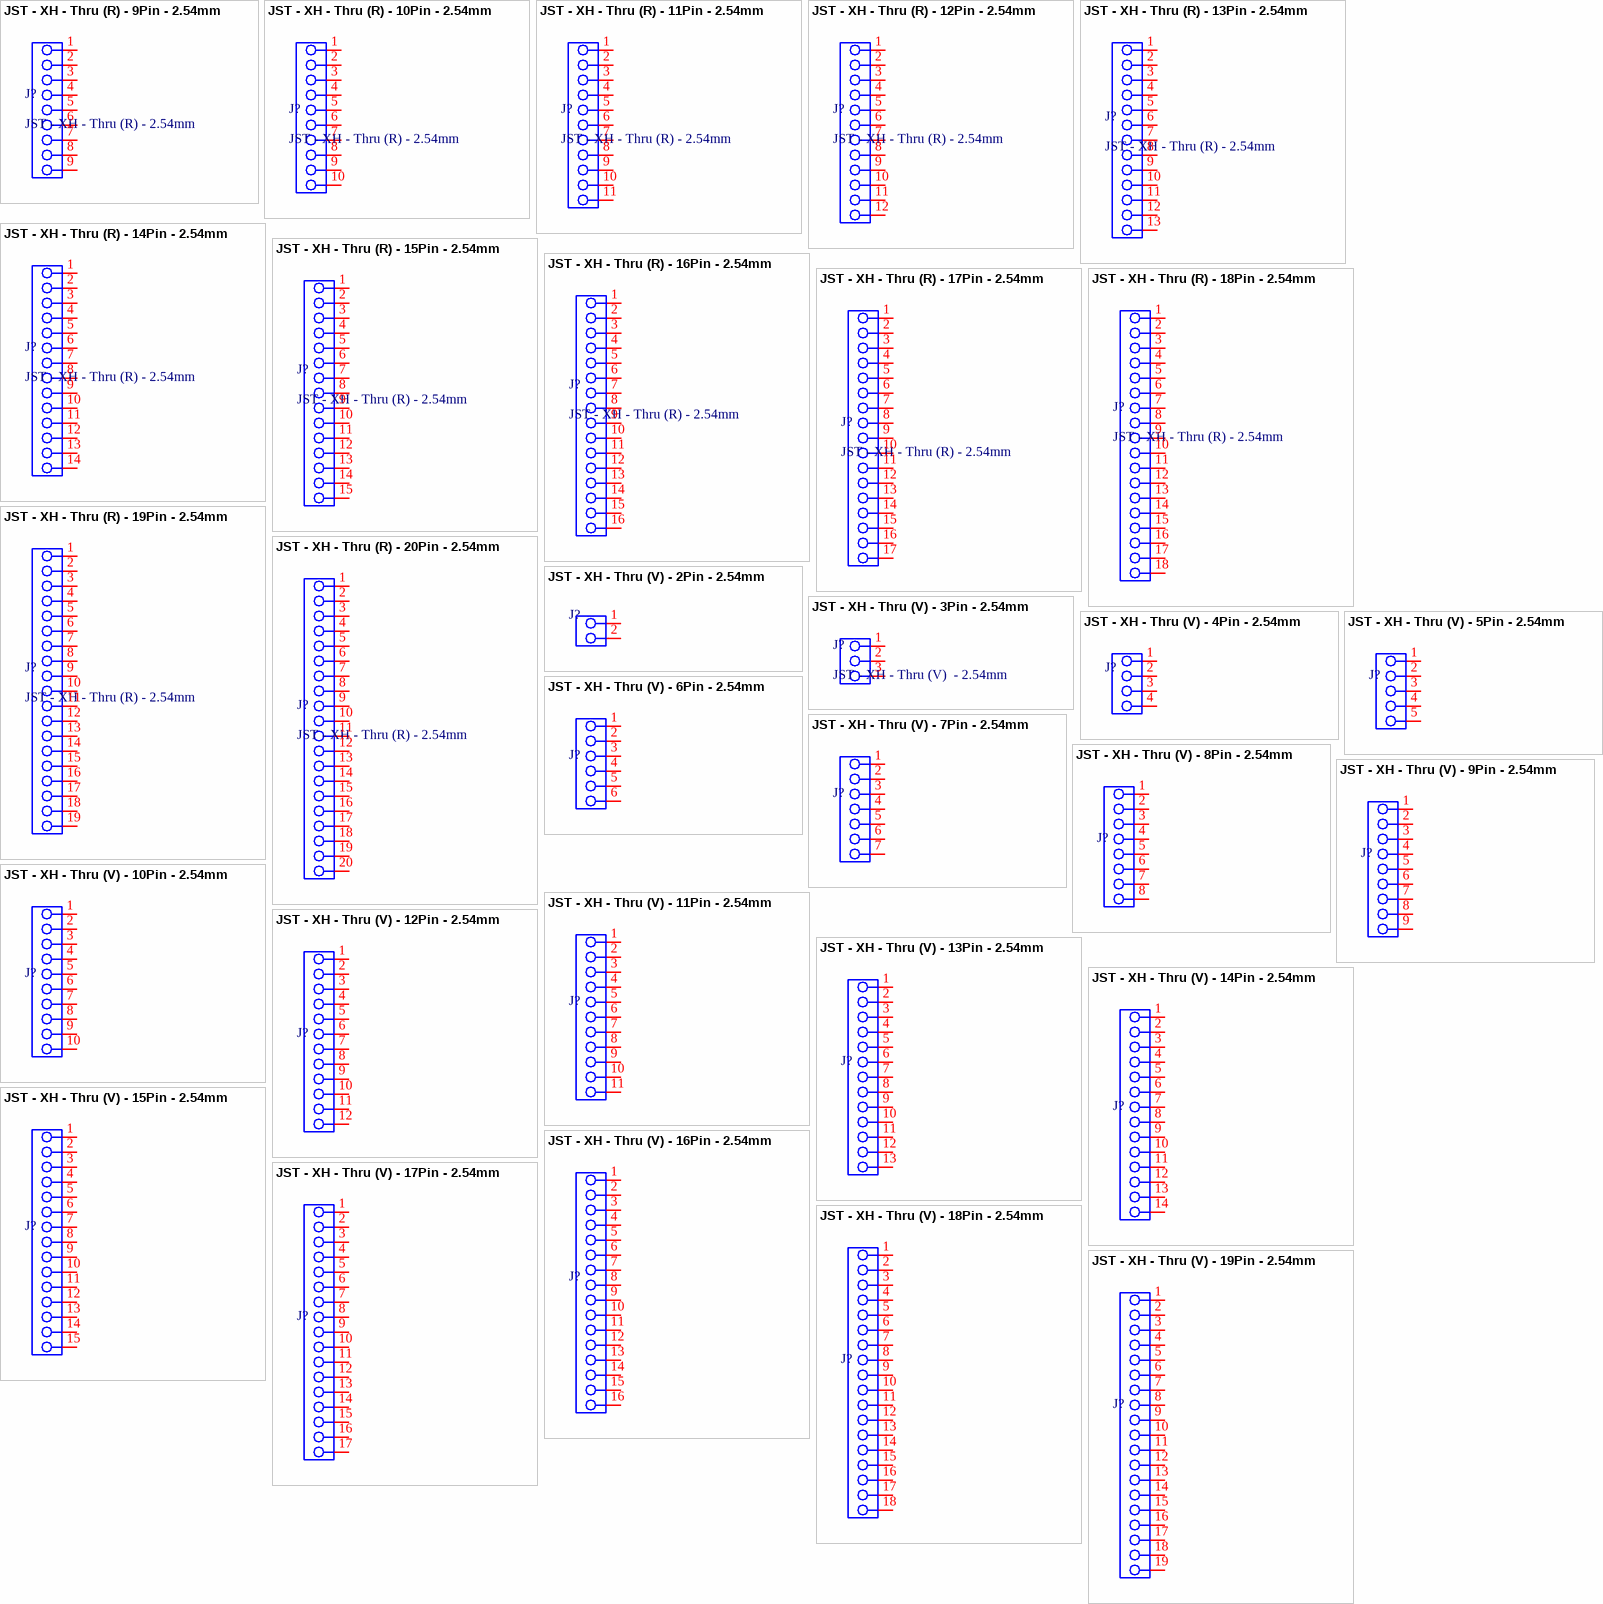
[diagram p4: symbols JST - XH - Thru (R) - 9Pin - 2.54mm to JST - XH - Thru (V) - 19Pin - 2.54mm]

## JST - XH - Thru (R) - 9Pin - 2.54mm
designator J?, comment JST - XH - Thru (R) - 2.54mm
footprint JST - XH - Thru (R) - 9Pin - 2.54mm
pins: 1, 2, 3, 4, 5, 6, 7, 8, 9

## JST - XH - Thru (R) - 10Pin - 2.54mm
designator J?, comment JST - XH - Thru (R) - 2.54mm
footprint JST - XH - Thru (R) - 10Pin - 2.54mm
pins: 1, 2, 3, 4, 5, 6, 7, 8, 9, 10

## JST - XH - Thru (R) - 11Pin - 2.54mm
designator J?, comment JST - XH - Thru (R) - 2.54mm
footprint JST - XH - Thru (R) - 11Pin - 2.54mm
pins: 1, 2, 3, 4, 5, 6, 7, 8, 9, 10, 11

## JST - XH - Thru (R) - 12Pin - 2.54mm
designator J?, comment JST - XH - Thru (R) - 2.54mm
footprint JST - XH - Thru (R) - 12Pin - 2.54mm
pins: 1, 2, 3, 4, 5, 6, 7, 8, 9, 10, 11, 12

## JST - XH - Thru (R) - 13Pin - 2.54mm
designator J?, comment JST - XH - Thru (R) - 2.54mm
footprint JST - XH - Thru (R) - 13Pin - 2.54mm
pins: 1, 2, 3, 4, 5, 6, 7, 8, 9, 10, 11, 12, 13

## JST - XH - Thru (R) - 14Pin - 2.54mm
designator J?, comment JST - XH - Thru (R) - 2.54mm
footprint JST - XH - Thru (R) - 14Pin - 2.54mm
pins: 1, 2, 3, 4, 5, 6, 7, 8, 9, 10, 11, 12, 13, 14

## JST - XH - Thru (R) - 15Pin - 2.54mm
designator J?, comment JST - XH - Thru (R) - 2.54mm
footprint JST - XH - Thru (R) - 15Pin - 2.54mm
pins: 1, 2, 3, 4, 5, 6, 7, 8, 9, 10, 11, 12, 13, 14, 15

## JST - XH - Thru (R) - 16Pin - 2.54mm
designator J?, comment JST - XH - Thru (R) - 2.54mm
footprint JST - XH - Thru (R) - 16Pin - 2.54mm
pins: 1, 2, 3, 4, 5, 6, 7, 8, 9, 10, 11, 12, 13, 14, 15, 16

## JST - XH - Thru (R) - 17Pin - 2.54mm
designator J?, comment JST - XH - Thru (R) - 2.54mm
footprint JST - XH - Thru (R) - 17Pin - 2.54mm
pins: 1, 2, 3, 4, 5, 6, 7, 8, 9, 10, 11, 12, 13, 14, 15, 16, 17

## JST - XH - Thru (R) - 18Pin - 2.54mm
designator J?, comment JST - XH - Thru (R) - 2.54mm
footprint JST - XH - Thru (R) - 18Pin - 2.54mm
pins: 1, 2, 3, 4, 5, 6, 7, 8, 9, 10, 11, 12, 13, 14, 15, 16, 17, 18

## JST - XH - Thru (R) - 19Pin - 2.54mm
designator J?, comment JST - XH - Thru (R) - 2.54mm
footprint JST - XH - Thru (R) - 19Pin - 2.54mm
pins: 1, 2, 3, 4, 5, 6, 7, 8, 9, 10, 11, 12, 13, 14, 15, 16, 17, 18, 19

## JST - XH - Thru (R) - 20Pin - 2.54mm
designator J?, comment JST - XH - Thru (R) - 2.54mm
footprint JST - XH - Thru (R) - 20Pin - 2.54mm
pins: 1, 2, 3, 4, 5, 6, 7, 8, 9, 10, 11, 12, 13, 14, 15, 16, 17, 18, 19, 20

## JST - XH - Thru (V) - 2Pin - 2.54mm
designator J?, comment JST - XH - Thru (V)  - 2.54mm  (value not drawn)
footprint JST - XH - Thru (V) - 2Pin - 2.54mm
pins: 1, 2

## JST - XH - Thru (V) - 3Pin - 2.54mm
designator J?, comment JST - XH - Thru (V)  - 2.54mm
footprint JST - XH - Thru (V) - 3Pin - 2.54mm
pins: 1, 2, 3

## JST - XH - Thru (V) - 4Pin - 2.54mm
designator J?, comment JST - XH - Thru (V)  - 2.54mm  (value not drawn)
footprint JST - XH - Thru (V) - 4Pin - 2.54mm
pins: 1, 2, 3, 4

## JST - XH - Thru (V) - 5Pin - 2.54mm
designator J?, comment JST - XH - Thru (V)  - 2.54mm  (value not drawn)
footprint JST - XH - Thru (V) - 5Pin - 2.54mm
pins: 1, 2, 3, 4, 5

## JST - XH - Thru (V) - 6Pin - 2.54mm
designator J?, comment JST - XH - Thru (V)  - 2.54mm  (value not drawn)
footprint JST - XH - Thru (V) - 6Pin - 2.54mm
pins: 1, 2, 3, 4, 5, 6

## JST - XH - Thru (V) - 7Pin - 2.54mm
designator J?, comment JST - XH - Thru (V)  - 2.54mm  (value not drawn)
footprint JST - XH - Thru (V) - 7Pin - 2.54mm
pins: 1, 2, 3, 4, 5, 6, 7

## JST - XH - Thru (V) - 8Pin - 2.54mm
designator J?, comment JST - XH - Thru (V)  - 2.54mm  (value not drawn)
footprint JST - XH - Thru (V) - 9Pin - 2.54mm
footprint JST - XH - Thru (V) - 8Pin - 2.54mm
pins: 1, 2, 3, 4, 5, 6, 7, 8

## JST - XH - Thru (V) - 9Pin - 2.54mm
designator J?, comment JST - XH - Thru (V)  - 2.54mm  (value not drawn)
footprint JST - XH - Thru (V) - 9Pin - 2.54mm
pins: 1, 2, 3, 4, 5, 6, 7, 8, 9

## JST - XH - Thru (V) - 10Pin - 2.54mm
designator J?, comment JST - XH - Thru (V)  - 2.54mm  (value not drawn)
footprint JST - XH - Thru (V) - 10Pin - 2.54mm
pins: 1, 2, 3, 4, 5, 6, 7, 8, 9, 10

## JST - XH - Thru (V) - 11Pin - 2.54mm
designator J?, comment JST - XH - Thru (V)  - 2.54mm  (value not drawn)
footprint JST - XH - Thru (V) - 11Pin - 2.54mm
pins: 1, 2, 3, 4, 5, 6, 7, 8, 9, 10, 11

## JST - XH - Thru (V) - 12Pin - 2.54mm
designator J?, comment JST - XH - Thru (V)  - 2.54mm  (value not drawn)
footprint JST - XH - Thru (V) - 12Pin - 2.54mm
pins: 1, 2, 3, 4, 5, 6, 7, 8, 9, 10, 11, 12

## JST - XH - Thru (V) - 13Pin - 2.54mm
designator J?, comment JST - XH - Thru (V)  - 2.54mm  (value not drawn)
footprint JST - XH - Thru (V) - 13Pin - 2.54mm
pins: 1, 2, 3, 4, 5, 6, 7, 8, 9, 10, 11, 12, 13

## JST - XH - Thru (V) - 14Pin - 2.54mm
designator J?, comment JST - XH - Thru (V)  - 2.54mm  (value not drawn)
footprint JST - XH - Thru (V) - 14Pin - 2.54mm
pins: 1, 2, 3, 4, 5, 6, 7, 8, 9, 10, 11, 12, 13, 14

## JST - XH - Thru (V) - 15Pin - 2.54mm
designator J?, comment JST - XH - Thru (V)  - 2.54mm  (value not drawn)
footprint JST - XH - Thru (V) - 15Pin - 2.54mm
pins: 1, 2, 3, 4, 5, 6, 7, 8, 9, 10, 11, 12, 13, 14, 15

## JST - XH - Thru (V) - 16Pin - 2.54mm
designator J?, comment JST - XH - Thru (V)  - 2.54mm  (value not drawn)
footprint JST - XH - Thru (V) - 16Pin - 2.54mm
pins: 1, 2, 3, 4, 5, 6, 7, 8, 9, 10, 11, 12, 13, 14, 15, 16

## JST - XH - Thru (V) - 17Pin - 2.54mm
designator J?, comment JST - XH - Thru (V)  - 2.54mm  (value not drawn)
footprint JST - XH - Thru (V) - 17Pin - 2.54mm
pins: 1, 2, 3, 4, 5, 6, 7, 8, 9, 10, 11, 12, 13, 14, 15, 16, 17

## JST - XH - Thru (V) - 18Pin - 2.54mm
designator J?, comment JST - XH - Thru (V)  - 2.54mm  (value not drawn)
footprint JST - XH - Thru (V) - 18Pin - 2.54mm
pins: 1, 2, 3, 4, 5, 6, 7, 8, 9, 10, 11, 12, 13, 14, 15, 16, 17, 18

## JST - XH - Thru (V) - 19Pin - 2.54mm
designator J?, comment JST - XH - Thru (V)  - 2.54mm  (value not drawn)
footprint JST - XH - Thru (V) - 19Pin - 2.54mm
pins: 1, 2, 3, 4, 5, 6, 7, 8, 9, 10, 11, 12, 13, 14, 15, 16, 17, 18, 19

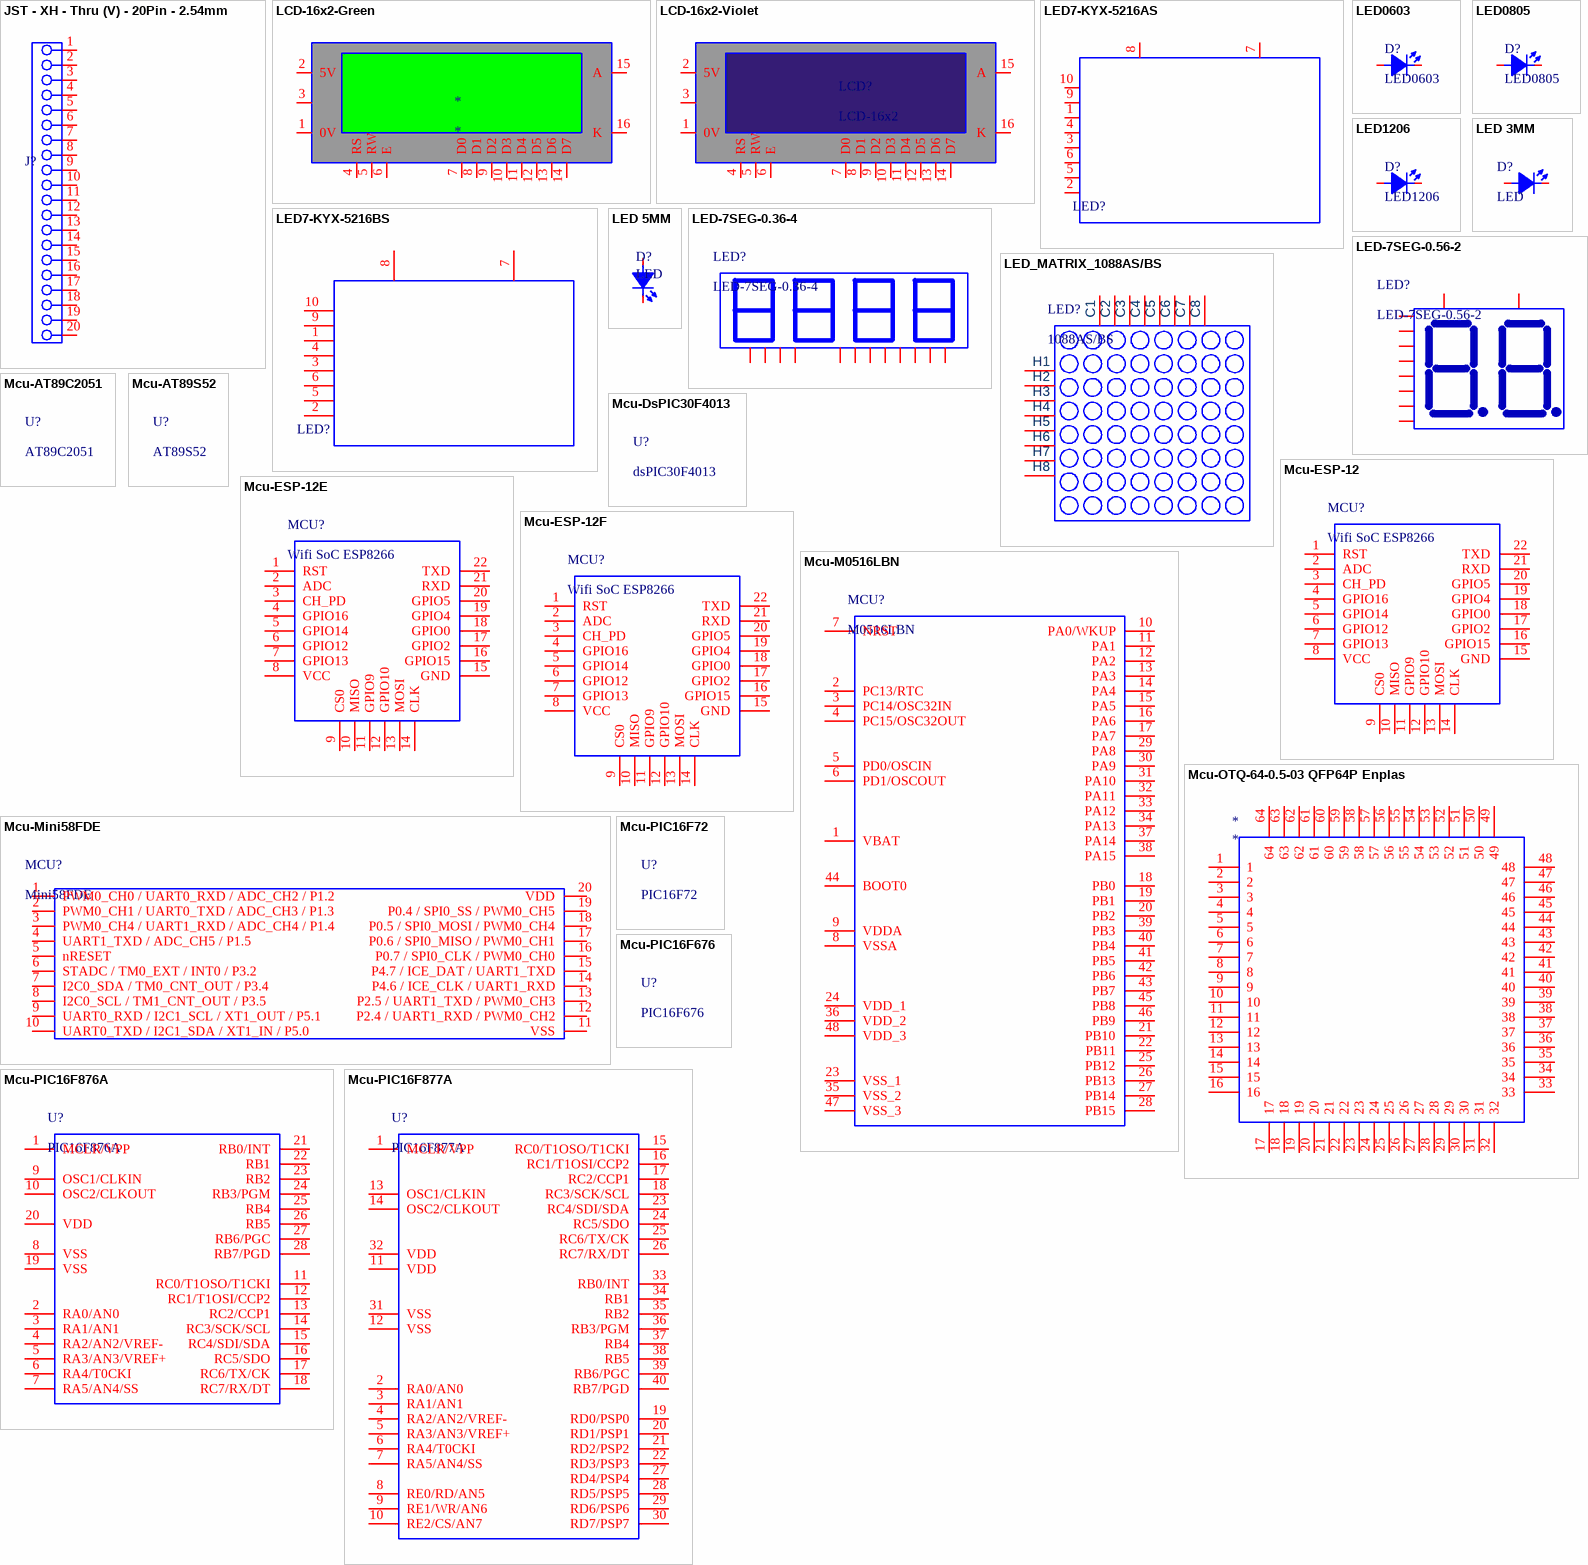
[diagram p5: symbols JST - XH - Thru (V) - 20Pin - 2.54mm to Mcu-PIC16F877A]

## JST - XH - Thru (V) - 20Pin - 2.54mm
designator J?, comment JST - XH - Thru (V)  - 2.54mm  (value not drawn)
footprint JST - XH - Thru (V) - 20Pin - 2.54mm
pins: 1, 2, 3, 4, 5, 6, 7, 8, 9, 10, 11, 12, 13, 14, 15, 16, 17, 18, 19, 20

## LCD-16x2-Green
designator *
footprint LCD-16x2-GREEN
pins: 1 0V, 2 5V, 3 VEE, 4 RS, 5 RW, 6 E, 7 D0, 8 D1, 9 D2, 10 D3, 11 D4, 12 D5, 13 D6, 14 D7, 15 A, 16 K

## LCD-16x2-Violet
designator LCD?, comment LCD-16x2
footprint LCD-16x2-VIOLET
pins: 1 0V, 2 5V, 3 VEE, 4 RS, 5 RW, 6 E, 7 D0, 8 D1, 9 D2, 10 D3, 11 D4, 12 D5, 13 D6, 14 D7, 15 A, 16 K

## LED7-KYX-5216AS
designator LED?, comment 5216AS  (value not drawn)
footprint KYX-5261AS/BS (0.56inch 2digits red 7 segment led display 10pin)
pins: 1, 2, 3, 4, 5, 6, 7, 8, 9, 10

## LED7-KYX-5216BS
designator LED?, comment 5216BS  (value not drawn)
footprint KYX-5261AS/BS (0.56inch 2digits red 7 segment led display 10pin)
pins: 1, 2, 3, 4, 5, 6, 7, 8, 9, 10

## LED0603
designator D?
footprint L0603BLUE
pins: 1 A, 2 K

## LED0805
designator D?
footprint L0805RED
pins: 1 A, 2 K

## LED1206
designator D?
footprint L1206BLUE
footprint L1206RED
pins: 1 A, 2 K

## LED 3MM
designator D?, comment LED
footprint LED_3MM_GREEN
footprint LED_3MM_RED
pins: 1 A, 2 K

## LED 5MM
designator D?, comment LED
footprint LED_5MM
pins: 1 A, 2 K

## LED-7SEG-0.36-4
designator LED?
footprint LED-7SEG-0.36-4
pins: 1, 2, 3, 4, 5, 6, 7, 8, 9, 10, 11, 12

## LED-7SEG-0.56-2
designator LED?
footprint 5261BS
pins: 1, 2, 3, 4, 5, 6, 7 L2, 8 L1, 9 7, 10 11

## LED_MATRIX_1088AS/BS
designator LED?, comment 1088AS/BS
footprint LED_MATRIX_1088AS/BS
pins: 1, 2, 3, 4, 5, 6, 7, 8, 9, 10, 11, 12, 13, 14, 15, 16
text: C1; C2; C3; C4; C5; C6; C7; C8; H1; H2; H3; H4; H5; H6; H7; H8

## Mcu-AT89C2051
designator U?, comment AT89C2051
footprint SOP-20

## Mcu-AT89S52
designator U?, comment AT89S52
footprint TQFP44_0.8_10

## Mcu-DsPIC30F4013
designator U?, comment dsPIC30F4013
footprint TQFP44_0.8_10

## Mcu-ESP-12
designator MCU?, comment Wifi SoC ESP8266
footprint ESP-12
pins: 1 RST, 2 ADC, 3 CH_PD, 4 GPIO16, 5 GPIO14, 6 GPIO12, 7 GPIO13, 8 VCC, 9 CS0, 10 MISO, 11 GPIO9, 12 GPIO10, 13 MOSI, 14 CLK, 15 GND, 16 GPIO15, 17 GPIO2, 18 GPIO0, 19 GPIO4, 20 GPIO5, 21 RXD, 22 TXD

## Mcu-ESP-12E
designator MCU?, comment Wifi SoC ESP8266
footprint ESP-12E
pins: 1 RST, 2 ADC, 3 CH_PD, 4 GPIO16, 5 GPIO14, 6 GPIO12, 7 GPIO13, 8 VCC, 9 CS0, 10 MISO, 11 GPIO9, 12 GPIO10, 13 MOSI, 14 CLK, 15 GND, 16 GPIO15, 17 GPIO2, 18 GPIO0, 19 GPIO4, 20 GPIO5, 21 RXD, 22 TXD

## Mcu-ESP-12F
designator MCU?, comment Wifi SoC ESP8266
footprint ESP-12F
pins: 1 RST, 2 ADC, 3 CH_PD, 4 GPIO16, 5 GPIO14, 6 GPIO12, 7 GPIO13, 8 VCC, 9 CS0, 10 MISO, 11 GPIO9, 12 GPIO10, 13 MOSI, 14 CLK, 15 GND, 16 GPIO15, 17 GPIO2, 18 GPIO0, 19 GPIO4, 20 GPIO5, 21 RXD, 22 TXD

## Mcu-M0516LBN
designator MCU?, comment M0516LBN
Novoton 4Kb-RAM 64Kb-Flash
footprint LQFP048_FPT-48P-M05
pins: 1 VBAT, 2 PC13/RTC, 3 PC14/OSC32IN, 4 PC15/OSC32OUT, 5 PD0/OSCIN, 6 PD1/OSCOUT, 7 NRST, 8 VSSA, 9 VDDA, 10 PA0/WKUP, 11 PA1, 12 PA2, 13 PA3, 14 PA4, 15 PA5, 16 PA6, 17 PA7, 18 PB0, 19 PB1, 20 PB2, 21 PB10, 22 PB11, 23 VSS_1, 24 VDD_1, 25 PB12, 26 PB13, 27 PB14, 28 PB15, 29 PA8, 30 PA9, 31 PA10, 32 PA11, 33 PA12, 34 PA13, 35 VSS_2, 36 VDD_2, 37 PA14, 38 PA15, 39 PB3, 40 PB4, 41 PB5, 42 PB6, 43 PB7, 44 BOOT0, 45 PB8, 46 PB9, 47 VSS_3, 48 VDD_3

## Mcu-Mini58FDE
designator MCU?, comment Mini58FDE
Novoton 4Kb-RAM 32Kb-Flash
footprint TSSOP20_0.65_4.4
pins: 1 PWM0_CH0 / UART0_RXD / ADC_CH2 / P1.2, 2 PWM0_CH1 / UART0_TXD / ADC_CH3 / P1.3, 3 PWM0_CH4 / UART1_RXD / ADC_CH4 / P1.4, 4 UART1_TXD / ADC_CH5 / P1.5, 5 nRESET, 6 STADC / TM0_EXT / INT0 / P3.2, 7 I2C0_SDA / TM0_CNT_OUT / P3.4, 8 I2C0_SCL / TM1_CNT_OUT / P3.5, 9 UART0_RXD / I2C1_SCL / XT1_OUT / P5.1, 10 UART0_TXD / I2C1_SDA / XT1_IN / P5.0, 11 VSS, 12 P2.4 / UART1_RXD / PWM0_CH2, 13 P2.5 / UART1_TXD / PWM0_CH3, 14 P4.6 / ICE_CLK / UART1_RXD, 15 P4.7 / ICE_DAT / UART1_TXD, 16 P0.7 / SPI0_CLK / PWM0_CH0, 17 P0.6 / SPI0_MISO / PWM0_CH1, 18 P0.5 / SPI0_MOSI / PWM0_CH4, 19 P0.4 / SPI0_SS / PWM0_CH5, 20 VDD

## Mcu-OTQ-64-0.5-03 QFP64P Enplas
designator *
footprint SOCKET_ENPLAS_OTQ_64-0.5-03
pins: 1, 2, 3, 4, 5, 6, 7, 8, 9, 10, 11, 12, 13, 14, 15, 16, 17, 18, 19, 20, 21, 22, 23, 24, 25, 26, 27, 28, 29, 30, 31, 32, 33, 34, 35, 36, 37, 38, 39, 40, 41, 42, 43, 44, 45, 46, 47, 48, 49, 50, 51, 52, 53, 54, 55, 56, 57, 58, 59, 60, 61, 62, 63, 64

## Mcu-PIC16F72
designator U?, comment PIC16F72
footprint SSOP28

## Mcu-PIC16F676
designator U?, comment PIC16F676
footprint TSSOP14_0.65_4.4

## Mcu-PIC16F876A
designator U?, comment PIC16F876A
footprint SSOP28
footprint DIP28_M04
pins: 1 MCLR/VPP, 2 RA0/AN0, 3 RA1/AN1, 4 RA2/AN2/VREF-, 5 RA3/AN3/VREF+, 6 RA4/T0CKI, 7 RA5/AN4/SS, 8 VSS, 9 OSC1/CLKIN, 10 OSC2/CLKOUT, 11 RC0/T1OSO/T1CKI, 12 RC1/T1OSI/CCP2, 13 RC2/CCP1, 14 RC3/SCK/SCL, 15 RC4/SDI/SDA, 16 RC5/SDO, 17 RC6/TX/CK, 18 RC7/RX/DT, 19 VSS, 20 VDD, 21 RB0/INT, 22 RB1, 23 RB2, 24 RB3/PGM, 25 RB4, 26 RB5, 27 RB6/PGC, 28 RB7/PGD

## Mcu-PIC16F877A
designator U?, comment PIC16F877A
footprint DIP40_M02
pins: 1 MCLR/VPP, 2 RA0/AN0, 3 RA1/AN1, 4 RA2/AN2/VREF-, 5 RA3/AN3/VREF+, 6 RA4/T0CKI, 7 RA5/AN4/SS, 8 RE0/RD/AN5, 9 RE1/WR/AN6, 10 RE2/CS/AN7, 11 VDD, 12 VSS, 13 OSC1/CLKIN, 14 OSC2/CLKOUT, 15 RC0/T1OSO/T1CKI, 16 RC1/T1OSI/CCP2, 17 RC2/CCP1, 18 RC3/SCK/SCL, 19 RD0/PSP0, 20 RD1/PSP1, 21 RD2/PSP2, 22 RD3/PSP3, 23 RC4/SDI/SDA, 24 RC5/SDO, 25 RC6/TX/CK, 26 RC7/RX/DT, 27 RD4/PSP4, 28 RD5/PSP5, 29 RD6/PSP6, 30 RD7/PSP7, 31 VSS, 32 VDD, 33 RB0/INT, 34 RB1, 35 RB2, 36 RB3/PGM, 37 RB4, 38 RB5, 39 RB6/PGC, 40 RB7/PGD

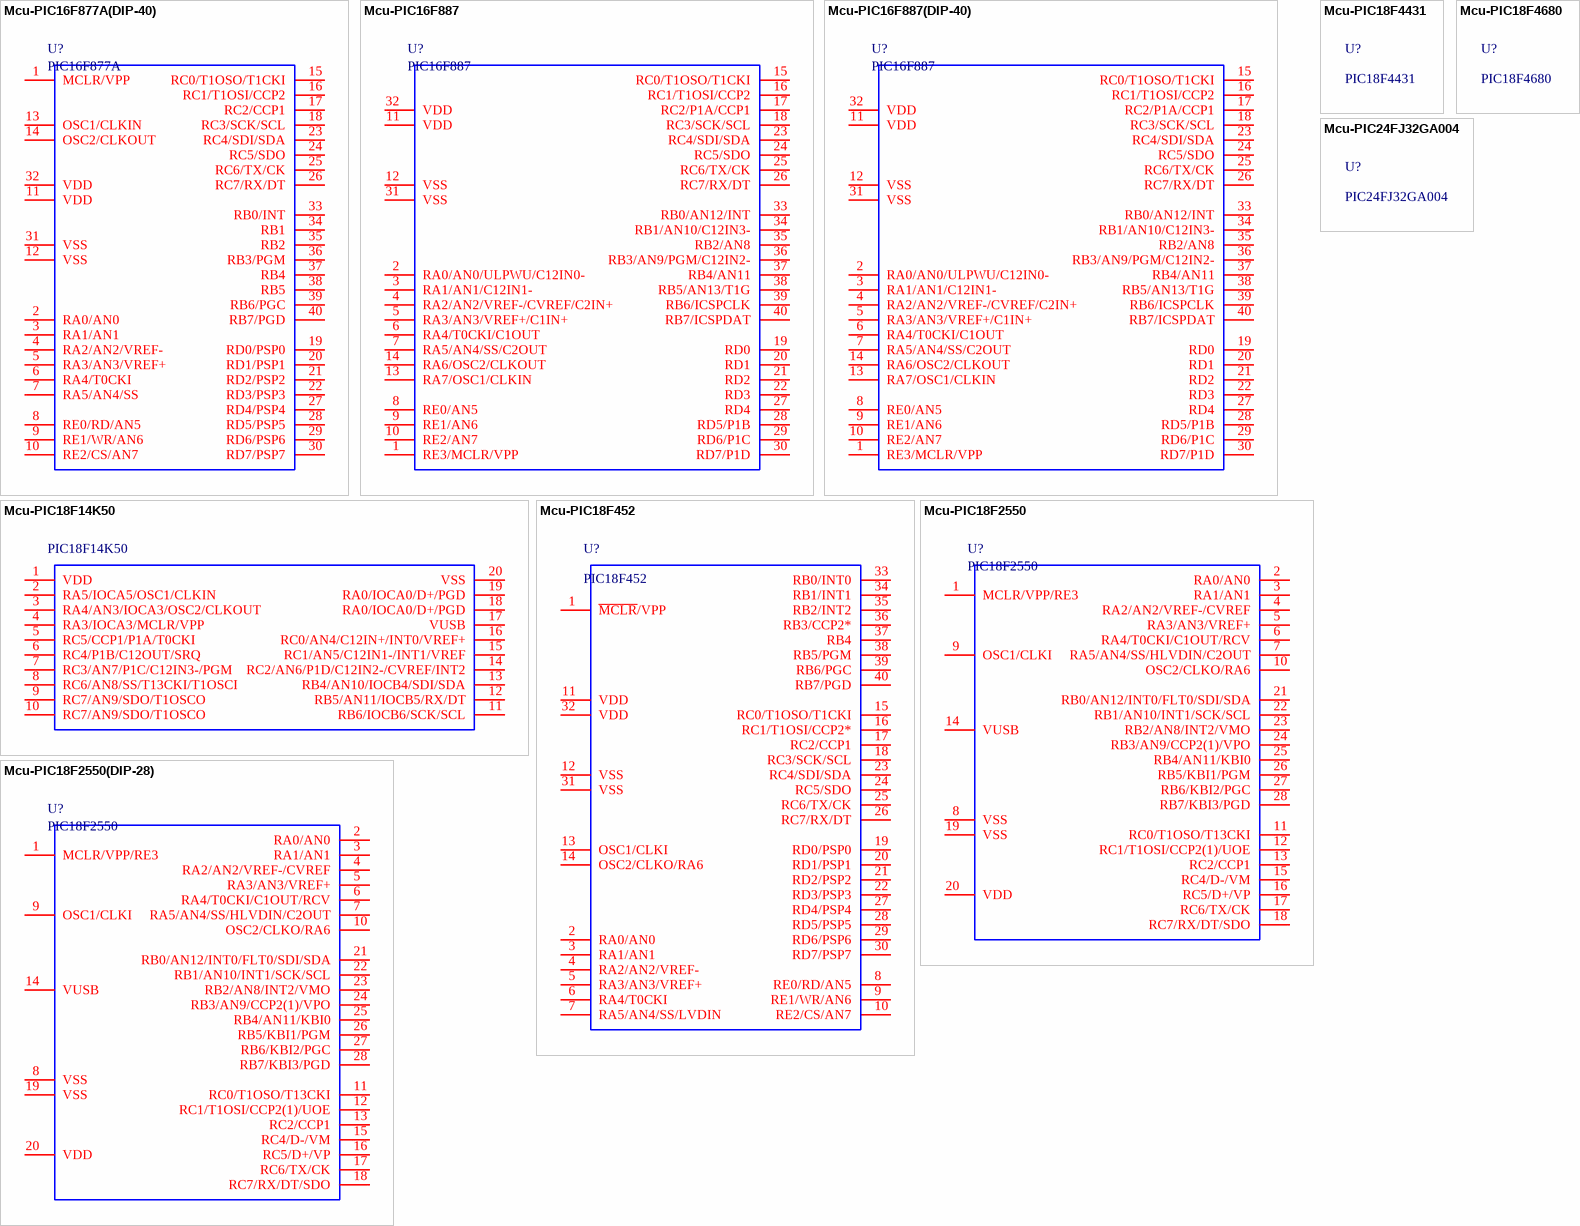
[diagram p6: symbols Mcu-PIC16F877A(DIP-40) to Mcu-PIC24FJ32GA004]

## Mcu-PIC16F877A(DIP-40)
designator U?, comment PIC16F877A
footprint DIP40_M02
pins: 1 MCLR/VPP, 2 RA0/AN0, 3 RA1/AN1, 4 RA2/AN2/VREF-, 5 RA3/AN3/VREF+, 6 RA4/T0CKI, 7 RA5/AN4/SS, 8 RE0/RD/AN5, 9 RE1/WR/AN6, 10 RE2/CS/AN7, 11 VDD, 12 VSS, 13 OSC1/CLKIN, 14 OSC2/CLKOUT, 15 RC0/T1OSO/T1CKI, 16 RC1/T1OSI/CCP2, 17 RC2/CCP1, 18 RC3/SCK/SCL, 19 RD0/PSP0, 20 RD1/PSP1, 21 RD2/PSP2, 22 RD3/PSP3, 23 RC4/SDI/SDA, 24 RC5/SDO, 25 RC6/TX/CK, 26 RC7/RX/DT, 27 RD4/PSP4, 28 RD5/PSP5, 29 RD6/PSP6, 30 RD7/PSP7, 31 VSS, 32 VDD, 33 RB0/INT, 34 RB1, 35 RB2, 36 RB3/PGM, 37 RB4, 38 RB5, 39 RB6/PGC, 40 RB7/PGD

## Mcu-PIC16F887
designator U?, comment PIC16F887
footprint DIP40_M02
pins: 1 RE3/MCLR/VPP, 2 RA0/AN0/ULPWU/C12IN0-, 3 RA1/AN1/C12IN1-, 4 RA2/AN2/VREF-/CVREF/C2IN+, 5 RA3/AN3/VREF+/C1IN+, 6 RA4/T0CKI/C1OUT, 7 RA5/AN4/SS/C2OUT, 8 RE0/AN5, 9 RE1/AN6, 10 RE2/AN7, 11 VDD, 12 VSS, 13 RA7/OSC1/CLKIN, 14 RA6/OSC2/CLKOUT, 15 RC0/T1OSO/T1CKI, 16 RC1/T1OSI/CCP2, 17 RC2/P1A/CCP1, 18 RC3/SCK/SCL, 19 RD0, 20 RD1, 21 RD2, 22 RD3, 23 RC4/SDI/SDA, 24 RC5/SDO, 25 RC6/TX/CK, 26 RC7/RX/DT, 27 RD4, 28 RD5/P1B, 29 RD6/P1C, 30 RD7/P1D, 31 VSS, 32 VDD, 33 RB0/AN12/INT, 34 RB1/AN10/C12IN3-, 35 RB2/AN8, 36 RB3/AN9/PGM/C12IN2-, 37 RB4/AN11, 38 RB5/AN13/T1G, 39 RB6/ICSPCLK, 40 RB7/ICSPDAT

## Mcu-PIC16F887(DIP-40)
designator U?, comment PIC16F887
footprint DIP40_M02
pins: 1 RE3/MCLR/VPP, 2 RA0/AN0/ULPWU/C12IN0-, 3 RA1/AN1/C12IN1-, 4 RA2/AN2/VREF-/CVREF/C2IN+, 5 RA3/AN3/VREF+/C1IN+, 6 RA4/T0CKI/C1OUT, 7 RA5/AN4/SS/C2OUT, 8 RE0/AN5, 9 RE1/AN6, 10 RE2/AN7, 11 VDD, 12 VSS, 13 RA7/OSC1/CLKIN, 14 RA6/OSC2/CLKOUT, 15 RC0/T1OSO/T1CKI, 16 RC1/T1OSI/CCP2, 17 RC2/P1A/CCP1, 18 RC3/SCK/SCL, 19 RD0, 20 RD1, 21 RD2, 22 RD3, 23 RC4/SDI/SDA, 24 RC5/SDO, 25 RC6/TX/CK, 26 RC7/RX/DT, 27 RD4, 28 RD5/P1B, 29 RD6/P1C, 30 RD7/P1D, 31 VSS, 32 VDD, 33 RB0/AN12/INT, 34 RB1/AN10/C12IN3-, 35 RB2/AN8, 36 RB3/AN9/PGM/C12IN2-, 37 RB4/AN11, 38 RB5/AN13/T1G, 39 RB6/ICSPCLK, 40 RB7/ICSPDAT

## Mcu-PIC18F14K50
designator PIC18F14K50
footprint SOIC20_1.27_7.5
pins: 1 VDD, 2 RA5/IOCA5/OSC1/CLKIN, 3 RA4/AN3/IOCA3/OSC2/CLKOUT, 4 RA3/IOCA3/MCLR/VPP, 5 RC5/CCP1/P1A/T0CKI, 6 RC4/P1B/C12OUT/SRQ, 7 RC3/AN7/P1C/C12IN3-/PGM, 8 RC6/AN8/SS/T13CKI/T1OSCI, 9 RC7/AN9/SDO/T1OSCO, 10 RC7/AN9/SDO/T1OSCO, 11 RB6/IOCB6/SCK/SCL, 12 RB5/AN11/IOCB5/RX/DT, 13 RB4/AN10/IOCB4/SDI/SDA, 14 RC2/AN6/P1D/C12IN2-/CVREF/INT2, 15 RC1/AN5/C12IN1-/INT1/VREF, 16 RC0/AN4/C12IN+/INT0/VREF+, 17 VUSB, 18 RA0/IOCA0/D+/PGD, 19 RA0/IOCA0/D+/PGD, 20 VSS

## Mcu-PIC18F452
designator U?, comment PIC18F452
footprint TQFP44_0.8_10
footprint DIP40_M02
pins: 1 ~{MCLR}/VPP, 2 RA0/AN0, 3 RA1/AN1, 4 RA2/AN2/VREF-, 5 RA3/AN3/VREF+, 6 RA4/T0CKI, 7 RA5/AN4/SS/LVDIN, 8 RE0/RD/AN5, 9 RE1/WR/AN6, 10 RE2/CS/AN7, 11 VDD, 12 VSS, 13 OSC1/CLKI, 14 OSC2/CLKO/RA6, 15 RC0/T1OSO/T1CKI, 16 RC1/T1OSI/CCP2*, 17 RC2/CCP1, 18 RC3/SCK/SCL, 19 RD0/PSP0, 20 RD1/PSP1, 21 RD2/PSP2, 22 RD3/PSP3, 23 RC4/SDI/SDA, 24 RC5/SDO, 25 RC6/TX/CK, 26 RC7/RX/DT, 27 RD4/PSP4, 28 RD5/PSP5, 29 RD6/PSP6, 30 RD7/PSP7, 31 VSS, 32 VDD, 33 RB0/INT0, 34 RB1/INT1, 35 RB2/INT2, 36 RB3/CCP2*, 37 RB4, 38 RB5/PGM, 39 RB6/PGC, 40 RB7/PGD

## Mcu-PIC18F2550
designator U?, comment PIC18F2550
footprint DIP28_M04
pins: 1 MCLR/VPP/RE3, 2 RA0/AN0, 3 RA1/AN1, 4 RA2/AN2/VREF-/CVREF, 5 RA3/AN3/VREF+, 6 RA4/T0CKI/C1OUT/RCV, 7 RA5/AN4/SS/HLVDIN/C2OUT, 8 VSS, 9 OSC1/CLKI, 10 OSC2/CLKO/RA6, 11 RC0/T1OSO/T13CKI, 12 RC1/T1OSI/CCP2(1)/UOE, 13 RC2/CCP1, 14 VUSB, 15 RC4/D-/VM, 16 RC5/D+/VP, 17 RC6/TX/CK, 18 RC7/RX/DT/SDO, 19 VSS, 20 VDD, 21 RB0/AN12/INT0/FLT0/SDI/SDA, 22 RB1/AN10/INT1/SCK/SCL, 23 RB2/AN8/INT2/VMO, 24 RB3/AN9/CCP2(1)/VPO, 25 RB4/AN11/KBI0, 26 RB5/KBI1/PGM, 27 RB6/KBI2/PGC, 28 RB7/KBI3/PGD

## Mcu-PIC18F2550(DIP-28)
designator U?, comment PIC18F2550
footprint DIP28_M04
pins: 1 MCLR/VPP/RE3, 2 RA0/AN0, 3 RA1/AN1, 4 RA2/AN2/VREF-/CVREF, 5 RA3/AN3/VREF+, 6 RA4/T0CKI/C1OUT/RCV, 7 RA5/AN4/SS/HLVDIN/C2OUT, 8 VSS, 9 OSC1/CLKI, 10 OSC2/CLKO/RA6, 11 RC0/T1OSO/T13CKI, 12 RC1/T1OSI/CCP2(1)/UOE, 13 RC2/CCP1, 14 VUSB, 15 RC4/D-/VM, 16 RC5/D+/VP, 17 RC6/TX/CK, 18 RC7/RX/DT/SDO, 19 VSS, 20 VDD, 21 RB0/AN12/INT0/FLT0/SDI/SDA, 22 RB1/AN10/INT1/SCK/SCL, 23 RB2/AN8/INT2/VMO, 24 RB3/AN9/CCP2(1)/VPO, 25 RB4/AN11/KBI0, 26 RB5/KBI1/PGM, 27 RB6/KBI2/PGC, 28 RB7/KBI3/PGD

## Mcu-PIC18F4431
designator U?, comment PIC18F4431
footprint TQFP44_0.8_10

## Mcu-PIC18F4680
designator U?, comment PIC18F4680
footprint TQFP44_0.8_10

## Mcu-PIC24FJ32GA004
designator U?, comment PIC24FJ32GA004
footprint TQFP44_0.8_10

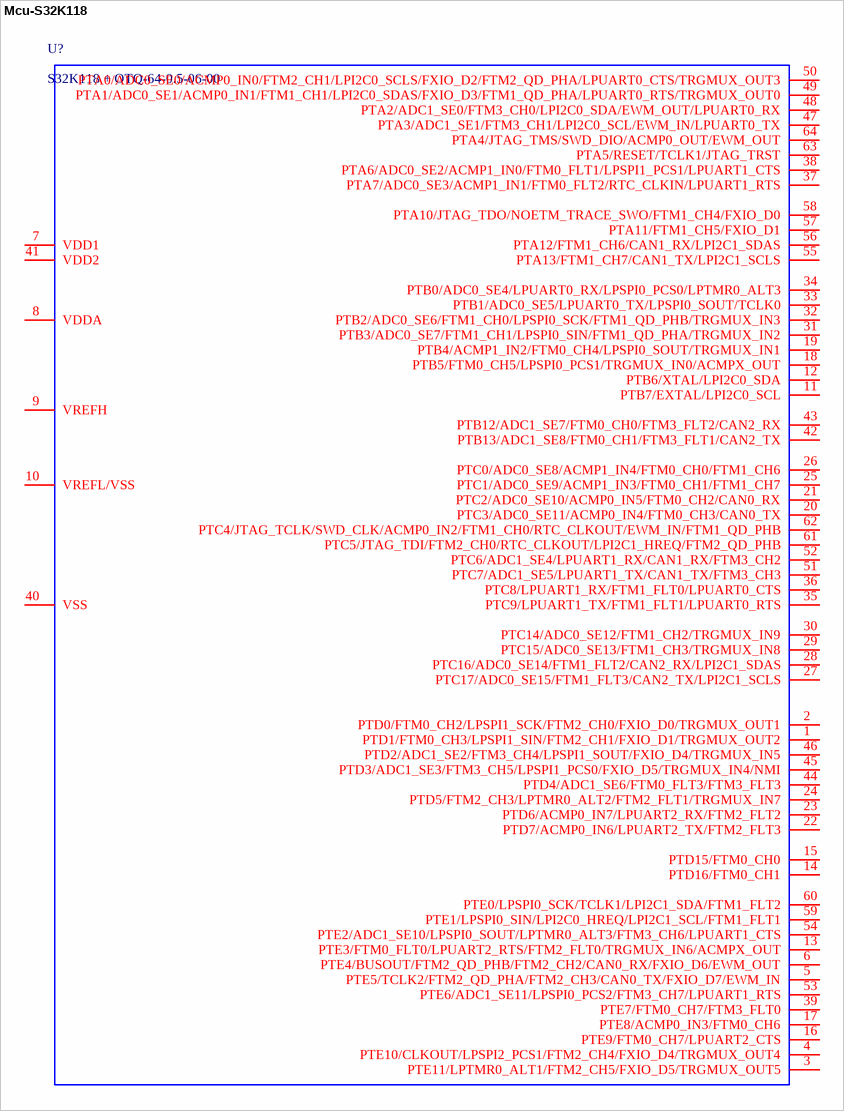
[diagram p7: symbol Mcu-S32K118]

## Mcu-S32K118
designator U?, comment S32K118 + OTQ-64-0.5-06-00
footprint SOCKET_QFP64
footprint SOCKET_ENPLAS_OTQ_64-0.5-03
pins: 1 PTD1/FTM0_CH3/LPSPI1_SIN/FTM2_CH1/FXIO_D1/TRGMUX_OUT2, 2 PTD0/FTM0_CH2/LPSPI1_SCK/FTM2_CH0/FXIO_D0/TRGMUX_OUT1, 3 PTE11/LPTMR0_ALT1/FTM2_CH5/FXIO_D5/TRGMUX_OUT5, 4 PTE10/CLKOUT/LPSPI2_PCS1/FTM2_CH4/FXIO_D4/TRGMUX_OUT4, 5 PTE5/TCLK2/FTM2_QD_PHA/FTM2_CH3/CAN0_TX/FXIO_D7/EWM_IN, 6 PTE4/BUSOUT/FTM2_QD_PHB/FTM2_CH2/CAN0_RX/FXIO_D6/EWM_OUT, 7 VDD1, 8 VDDA, 9 VREFH, 10 VREFL/VSS, 11 PTB7/EXTAL/LPI2C0_SCL, 12 PTB6/XTAL/LPI2C0_SDA, 13 PTE3/FTM0_FLT0/LPUART2_RTS/FTM2_FLT0/TRGMUX_IN6/ACMPX_OUT, 14 PTD16/FTM0_CH1, 15 PTD15/FTM0_CH0, 16 PTE9/FTM0_CH7/LPUART2_CTS, 17 PTE8/ACMP0_IN3/FTM0_CH6, 18 PTB5/FTM0_CH5/LPSPI0_PCS1/TRGMUX_IN0/ACMPX_OUT, 19 PTB4/ACMP1_IN2/FTM0_CH4/LPSPI0_SOUT/TRGMUX_IN1, 20 PTC3/ADC0_SE11/ACMP0_IN4/FTM0_CH3/CAN0_TX, 21 PTC2/ADC0_SE10/ACMP0_IN5/FTM0_CH2/CAN0_RX, 22 PTD7/ACMP0_IN6/LPUART2_TX/FTM2_FLT3, 23 PTD6/ACMP0_IN7/LPUART2_RX/FTM2_FLT2, 24 PTD5/FTM2_CH3/LPTMR0_ALT2/FTM2_FLT1/TRGMUX_IN7, 25 PTC1/ADC0_SE9/ACMP1_IN3/FTM0_CH1/FTM1_CH7, 26 PTC0/ADC0_SE8/ACMP1_IN4/FTM0_CH0/FTM1_CH6, 27 PTC17/ADC0_SE15/FTM1_FLT3/CAN2_TX/LPI2C1_SCLS, 28 PTC16/ADC0_SE14/FTM1_FLT2/CAN2_RX/LPI2C1_SDAS, 29 PTC15/ADC0_SE13/FTM1_CH3/TRGMUX_IN8, 30 PTC14/ADC0_SE12/FTM1_CH2/TRGMUX_IN9, 31 PTB3/ADC0_SE7/FTM1_CH1/LPSPI0_SIN/FTM1_QD_PHA/TRGMUX_IN2, 32 PTB2/ADC0_SE6/FTM1_CH0/LPSPI0_SCK/FTM1_QD_PHB/TRGMUX_IN3, 33 PTB1/ADC0_SE5/LPUART0_TX/LPSPI0_SOUT/TCLK0, 34 PTB0/ADC0_SE4/LPUART0_RX/LPSPI0_PCS0/LPTMR0_ALT3, 35 PTC9/LPUART1_TX/FTM1_FLT1/LPUART0_RTS, 36 PTC8/LPUART1_RX/FTM1_FLT0/LPUART0_CTS, 37 PTA7/ADC0_SE3/ACMP1_IN1/FTM0_FLT2/RTC_CLKIN/LPUART1_RTS, 38 PTA6/ADC0_SE2/ACMP1_IN0/FTM0_FLT1/LPSPI1_PCS1/LPUART1_CTS, 39 PTE7/FTM0_CH7/FTM3_FLT0, 40 VSS, 41 VDD2, 42 PTB13/ADC1_SE8/FTM0_CH1/FTM3_FLT1/CAN2_TX, 43 PTB12/ADC1_SE7/FTM0_CH0/FTM3_FLT2/CAN2_RX, 44 PTD4/ADC1_SE6/FTM0_FLT3/FTM3_FLT3, 45 PTD3/ADC1_SE3/FTM3_CH5/LPSPI1_PCS0/FXIO_D5/TRGMUX_IN4/NMI, 46 PTD2/ADC1_SE2/FTM3_CH4/LPSPI1_SOUT/FXIO_D4/TRGMUX_IN5, 47 PTA3/ADC1_SE1/FTM3_CH1/LPI2C0_SCL/EWM_IN/LPUART0_TX, 48 PTA2/ADC1_SE0/FTM3_CH0/LPI2C0_SDA/EWM_OUT/LPUART0_RX, 49 PTA1/ADC0_SE1/ACMP0_IN1/FTM1_CH1/LPI2C0_SDAS/FXIO_D3/FTM1_QD_PHA/LPUART0_RTS/TRGMUX_OUT0, 50 PTA0/ADC0_SE0/ACMP0_IN0/FTM2_CH1/LPI2C0_SCLS/FXIO_D2/FTM2_QD_PHA/LPUART0_CTS/TRGMUX_OUT3, 51 PTC7/ADC1_SE5/LPUART1_TX/CAN1_TX/FTM3_CH3, 52 PTC6/ADC1_SE4/LPUART1_RX/CAN1_RX/FTM3_CH2, 53 PTE6/ADC1_SE11/LPSPI0_PCS2/FTM3_CH7/LPUART1_RTS, 54 PTE2/ADC1_SE10/LPSPI0_SOUT/LPTMR0_ALT3/FTM3_CH6/LPUART1_CTS, 55 PTA13/FTM1_CH7/CAN1_TX/LPI2C1_SCLS, 56 PTA12/FTM1_CH6/CAN1_RX/LPI2C1_SDAS, 57 PTA11/FTM1_CH5/FXIO_D1, 58 PTA10/JTAG_TDO/NOETM_TRACE_SWO/FTM1_CH4/FXIO_D0, 59 PTE1/LPSPI0_SIN/LPI2C0_HREQ/LPI2C1_SCL/FTM1_FLT1, 60 PTE0/LPSPI0_SCK/TCLK1/LPI2C1_SDA/FTM1_FLT2, 61 PTC5/JTAG_TDI/FTM2_CH0/RTC_CLKOUT/LPI2C1_HREQ/FTM2_QD_PHB, 62 PTC4/JTAG_TCLK/SWD_CLK/ACMP0_IN2/FTM1_CH0/RTC_CLKOUT/EWM_IN/FTM1_QD_PHB, 63 PTA5/RESET/TCLK1/JTAG_TRST, 64 PTA4/JTAG_TMS/SWD_DIO/ACMP0_OUT/EWM_OUT

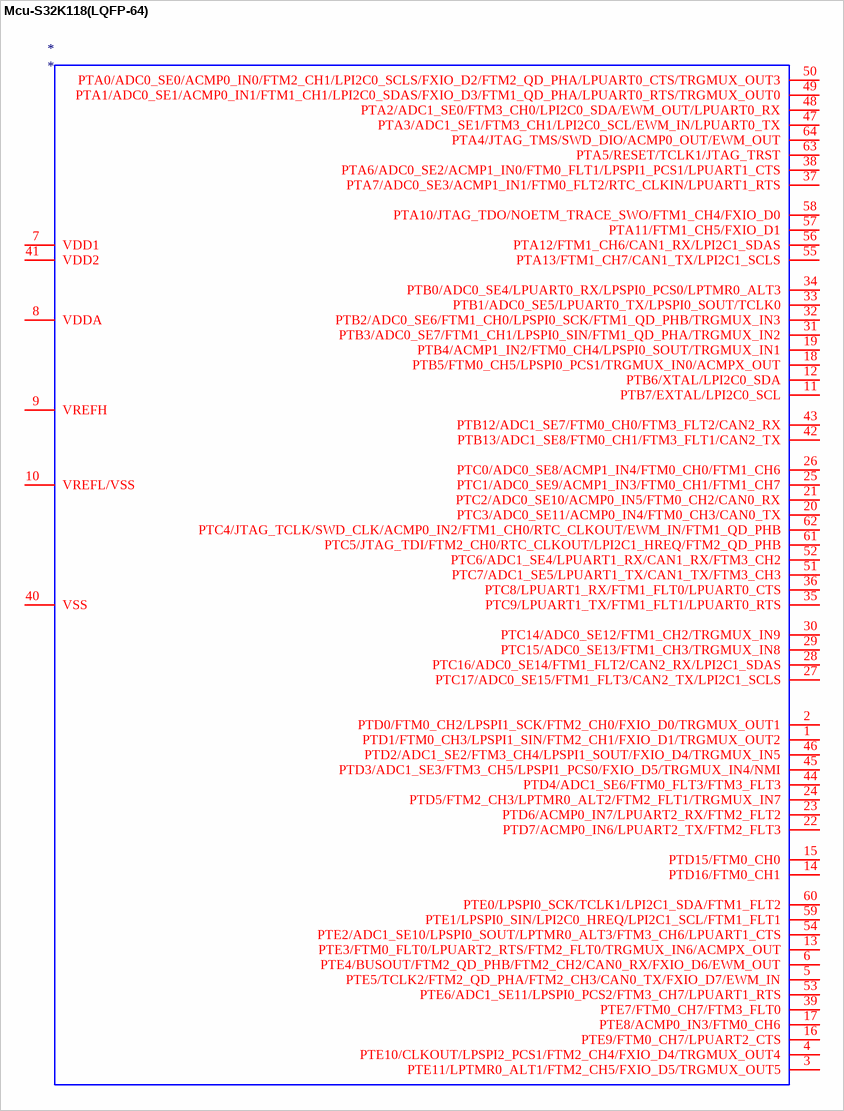
[diagram p8: symbol Mcu-S32K118(LQFP-64)]

## Mcu-S32K118(LQFP-64)
designator *
footprint LQFP064_FPT-64P-M03
pins: 1 PTD1/FTM0_CH3/LPSPI1_SIN/FTM2_CH1/FXIO_D1/TRGMUX_OUT2, 2 PTD0/FTM0_CH2/LPSPI1_SCK/FTM2_CH0/FXIO_D0/TRGMUX_OUT1, 3 PTE11/LPTMR0_ALT1/FTM2_CH5/FXIO_D5/TRGMUX_OUT5, 4 PTE10/CLKOUT/LPSPI2_PCS1/FTM2_CH4/FXIO_D4/TRGMUX_OUT4, 5 PTE5/TCLK2/FTM2_QD_PHA/FTM2_CH3/CAN0_TX/FXIO_D7/EWM_IN, 6 PTE4/BUSOUT/FTM2_QD_PHB/FTM2_CH2/CAN0_RX/FXIO_D6/EWM_OUT, 7 VDD1, 8 VDDA, 9 VREFH, 10 VREFL/VSS, 11 PTB7/EXTAL/LPI2C0_SCL, 12 PTB6/XTAL/LPI2C0_SDA, 13 PTE3/FTM0_FLT0/LPUART2_RTS/FTM2_FLT0/TRGMUX_IN6/ACMPX_OUT, 14 PTD16/FTM0_CH1, 15 PTD15/FTM0_CH0, 16 PTE9/FTM0_CH7/LPUART2_CTS, 17 PTE8/ACMP0_IN3/FTM0_CH6, 18 PTB5/FTM0_CH5/LPSPI0_PCS1/TRGMUX_IN0/ACMPX_OUT, 19 PTB4/ACMP1_IN2/FTM0_CH4/LPSPI0_SOUT/TRGMUX_IN1, 20 PTC3/ADC0_SE11/ACMP0_IN4/FTM0_CH3/CAN0_TX, 21 PTC2/ADC0_SE10/ACMP0_IN5/FTM0_CH2/CAN0_RX, 22 PTD7/ACMP0_IN6/LPUART2_TX/FTM2_FLT3, 23 PTD6/ACMP0_IN7/LPUART2_RX/FTM2_FLT2, 24 PTD5/FTM2_CH3/LPTMR0_ALT2/FTM2_FLT1/TRGMUX_IN7, 25 PTC1/ADC0_SE9/ACMP1_IN3/FTM0_CH1/FTM1_CH7, 26 PTC0/ADC0_SE8/ACMP1_IN4/FTM0_CH0/FTM1_CH6, 27 PTC17/ADC0_SE15/FTM1_FLT3/CAN2_TX/LPI2C1_SCLS, 28 PTC16/ADC0_SE14/FTM1_FLT2/CAN2_RX/LPI2C1_SDAS, 29 PTC15/ADC0_SE13/FTM1_CH3/TRGMUX_IN8, 30 PTC14/ADC0_SE12/FTM1_CH2/TRGMUX_IN9, 31 PTB3/ADC0_SE7/FTM1_CH1/LPSPI0_SIN/FTM1_QD_PHA/TRGMUX_IN2, 32 PTB2/ADC0_SE6/FTM1_CH0/LPSPI0_SCK/FTM1_QD_PHB/TRGMUX_IN3, 33 PTB1/ADC0_SE5/LPUART0_TX/LPSPI0_SOUT/TCLK0, 34 PTB0/ADC0_SE4/LPUART0_RX/LPSPI0_PCS0/LPTMR0_ALT3, 35 PTC9/LPUART1_TX/FTM1_FLT1/LPUART0_RTS, 36 PTC8/LPUART1_RX/FTM1_FLT0/LPUART0_CTS, 37 PTA7/ADC0_SE3/ACMP1_IN1/FTM0_FLT2/RTC_CLKIN/LPUART1_RTS, 38 PTA6/ADC0_SE2/ACMP1_IN0/FTM0_FLT1/LPSPI1_PCS1/LPUART1_CTS, 39 PTE7/FTM0_CH7/FTM3_FLT0, 40 VSS, 41 VDD2, 42 PTB13/ADC1_SE8/FTM0_CH1/FTM3_FLT1/CAN2_TX, 43 PTB12/ADC1_SE7/FTM0_CH0/FTM3_FLT2/CAN2_RX, 44 PTD4/ADC1_SE6/FTM0_FLT3/FTM3_FLT3, 45 PTD3/ADC1_SE3/FTM3_CH5/LPSPI1_PCS0/FXIO_D5/TRGMUX_IN4/NMI, 46 PTD2/ADC1_SE2/FTM3_CH4/LPSPI1_SOUT/FXIO_D4/TRGMUX_IN5, 47 PTA3/ADC1_SE1/FTM3_CH1/LPI2C0_SCL/EWM_IN/LPUART0_TX, 48 PTA2/ADC1_SE0/FTM3_CH0/LPI2C0_SDA/EWM_OUT/LPUART0_RX, 49 PTA1/ADC0_SE1/ACMP0_IN1/FTM1_CH1/LPI2C0_SDAS/FXIO_D3/FTM1_QD_PHA/LPUART0_RTS/TRGMUX_OUT0, 50 PTA0/ADC0_SE0/ACMP0_IN0/FTM2_CH1/LPI2C0_SCLS/FXIO_D2/FTM2_QD_PHA/LPUART0_CTS/TRGMUX_OUT3, 51 PTC7/ADC1_SE5/LPUART1_TX/CAN1_TX/FTM3_CH3, 52 PTC6/ADC1_SE4/LPUART1_RX/CAN1_RX/FTM3_CH2, 53 PTE6/ADC1_SE11/LPSPI0_PCS2/FTM3_CH7/LPUART1_RTS, 54 PTE2/ADC1_SE10/LPSPI0_SOUT/LPTMR0_ALT3/FTM3_CH6/LPUART1_CTS, 55 PTA13/FTM1_CH7/CAN1_TX/LPI2C1_SCLS, 56 PTA12/FTM1_CH6/CAN1_RX/LPI2C1_SDAS, 57 PTA11/FTM1_CH5/FXIO_D1, 58 PTA10/JTAG_TDO/NOETM_TRACE_SWO/FTM1_CH4/FXIO_D0, 59 PTE1/LPSPI0_SIN/LPI2C0_HREQ/LPI2C1_SCL/FTM1_FLT1, 60 PTE0/LPSPI0_SCK/TCLK1/LPI2C1_SDA/FTM1_FLT2, 61 PTC5/JTAG_TDI/FTM2_CH0/RTC_CLKOUT/LPI2C1_HREQ/FTM2_QD_PHB, 62 PTC4/JTAG_TCLK/SWD_CLK/ACMP0_IN2/FTM1_CH0/RTC_CLKOUT/EWM_IN/FTM1_QD_PHB, 63 PTA5/RESET/TCLK1/JTAG_TRST, 64 PTA4/JTAG_TMS/SWD_DIO/ACMP0_OUT/EWM_OUT

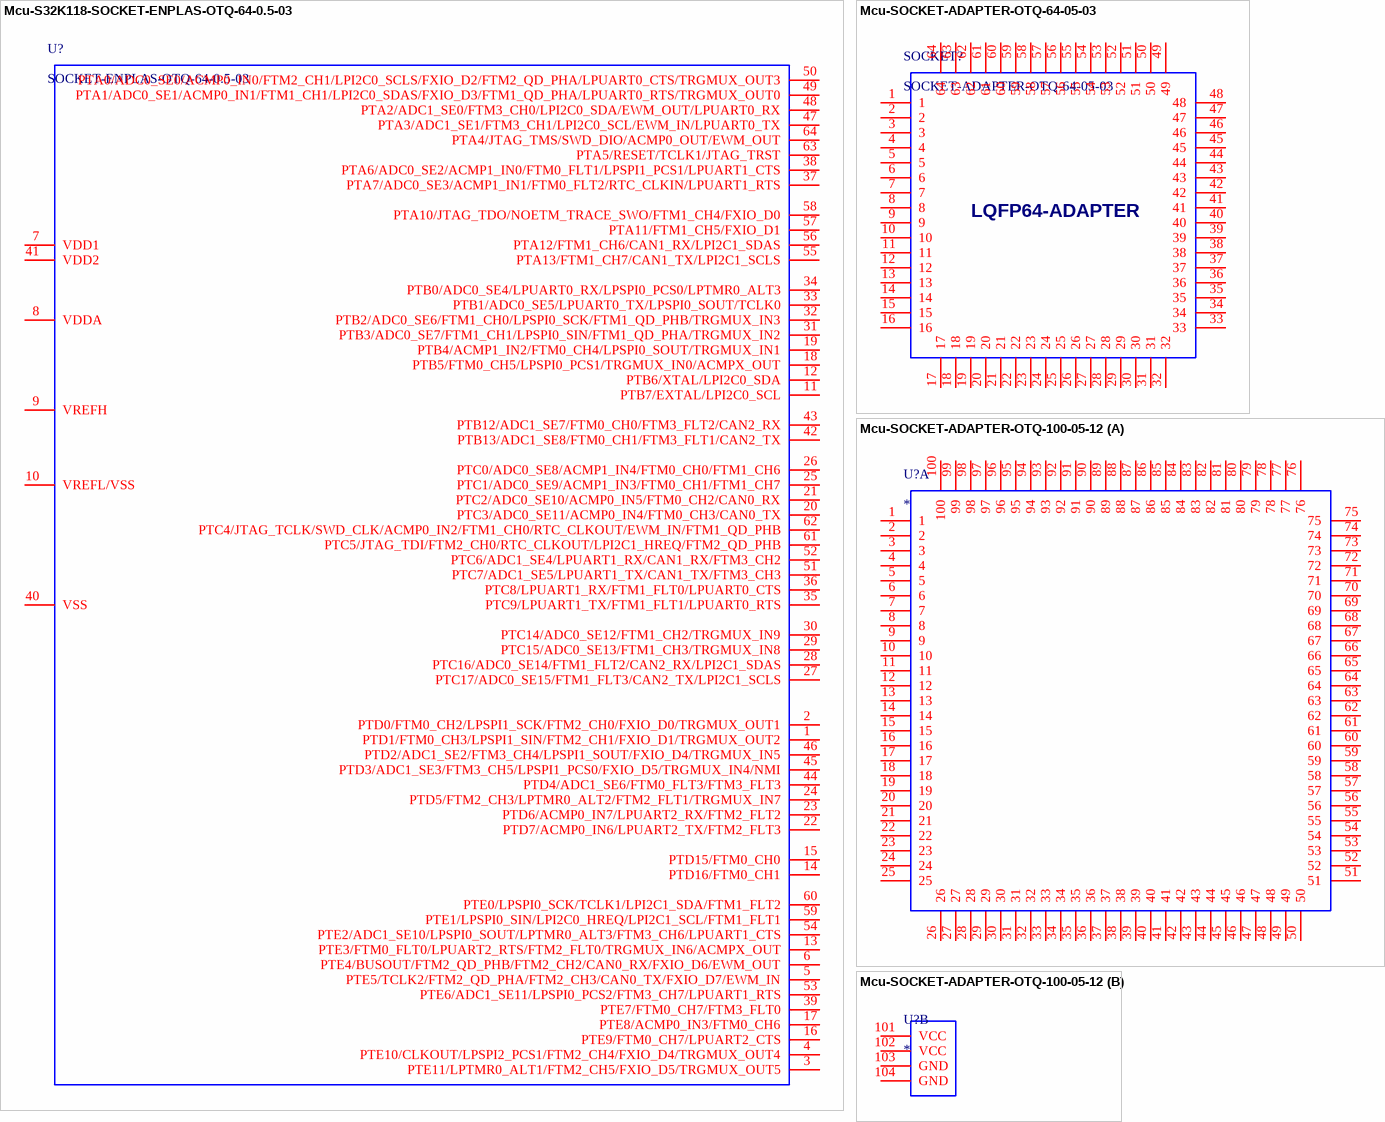
[diagram p9: symbols Mcu-S32K118-SOCKET-ENPLAS-OTQ-64-0.5-03 to Mcu-SOCKET-ADAPTER-OTQ-100-05-12]